# Altium schematic symbol library KipoAlt.SchLib: 644 symbols (part 2 of 4)
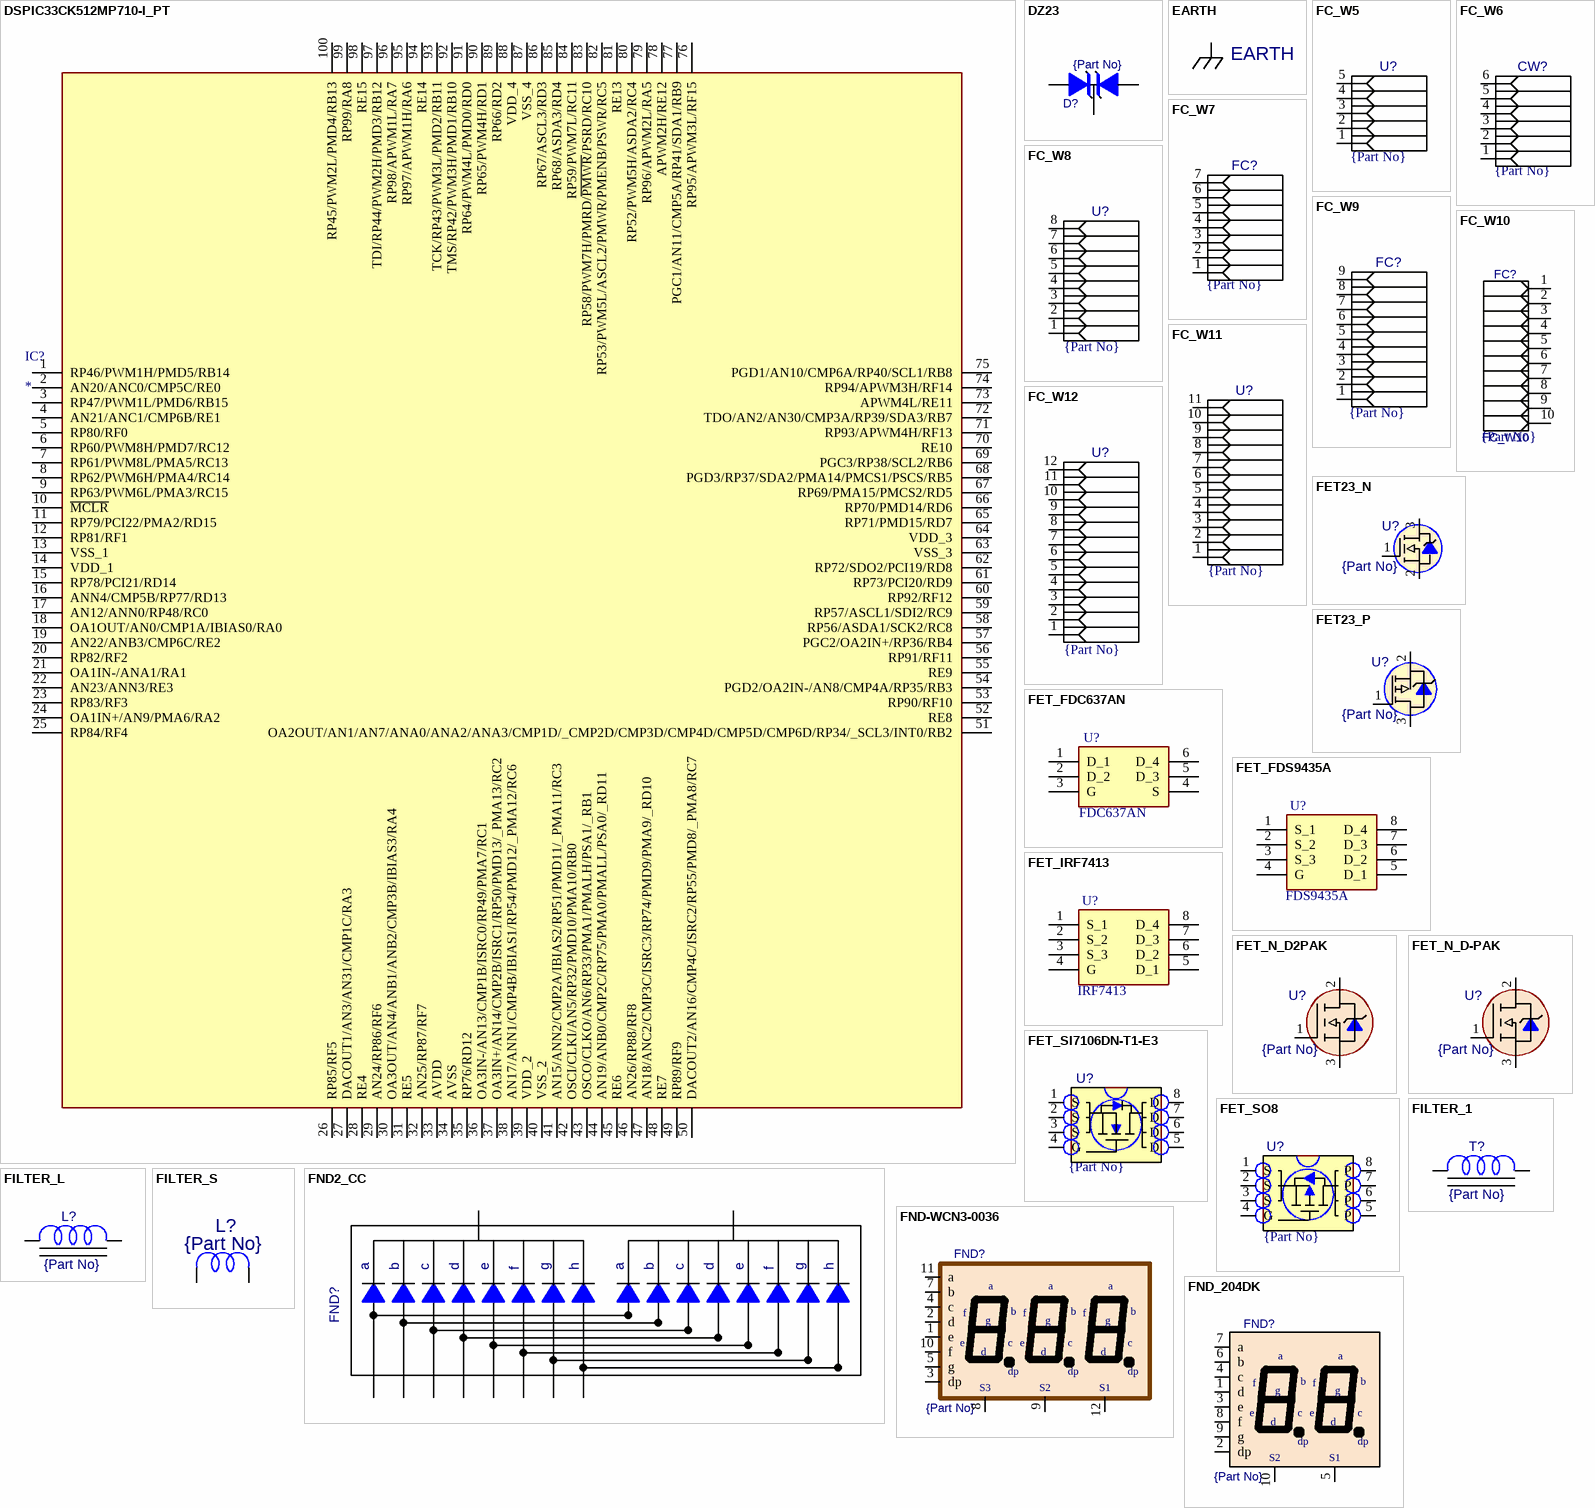
[diagram p19: symbols DSPIC33CK512MP710-I_PT to FND_204DK]

## DSPIC33CK512MP710-I_PT
designator IC?
Integrated Circuit; Manufacturer_Name: Microchip; Manufacturer_Part_Number: DSPIC33CK512MP710-I/PT; Datasheet Link: https://ww1.microchip.com/downloads/aemDocuments/documents/MCU16/ProductDocuments/DataSheets/dsPIC33CK1024MP710-Family-Data-Sheet-DS70005496.pdf; Height: 1.2mm; Mouser Part Number: 579-3CK512MP710-I/PT; Mouser Price/Stock: https://www.mouser.co.uk/ProductDetail/Microchip-Technology/dsPIC33CK512MP710-I-PT?qs=ulEaXIWI0c%2Ftf%2FU6HM7MLg%3D%3D
footprint QFP40P1400X1400X120-100N
pins: 1 RP46/PWM1H/PMD5/RB14, 2 AN20/ANC0/CMP5C/RE0, 3 RP47/PWM1L/PMD6/RB15, 4 AN21/ANC1/CMP6B/RE1, 5 RP80/RF0, 6 RP60/PWM8H/PMD7/RC12, 7 RP61/PWM8L/PMA5/RC13, 8 RP62/PWM6H/PMA4/RC14, 9 RP63/PWM6L/PMA3/RC15, 10 ~{MCLR}, 11 RP79/PCI22/PMA2/RD15, 12 RP81/RF1, 13 VSS_1, 14 VDD_1, 15 RP78/PCI21/RD14, 16 ANN4/CMP5B/RP77/RD13, 17 AN12/ANN0/RP48/RC0, 18 OA1OUT/AN0/CMP1A/IBIAS0/RA0, 19 AN22/ANB3/CMP6C/RE2, 20 RP82/RF2, 21 OA1IN-/ANA1/RA1, 22 AN23/ANN3/RE3, 23 RP83/RF3, 24 OA1IN+/AN9/PMA6/RA2, 25 RP84/RF4, 26 RP85/RF5, 27 DACOUT1/AN3/AN31/CMP1C/RA3, 28 RE4, 29 AN24/RP86/RF6, 30 OA3OUT/AN4/ANB1/ANB2/CMP3B/IBIAS3/RA4, 31 RE5, 32 AN25/RP87/RF7, 33 AVDD, 34 AVSS, 35 RP76/RD12, 36 OA3IN-/AN13/CMP1B/ISRC0/RP49/PMA7/RC1, 37 OA3IN+/AN14/CMP2B/ISRC1/RP50/PMD13/_PMA13/RC2, 38 AN17/ANN1/CMP4B/IBIAS1/RP54/PMD12/_PMA12/RC6, 39 VDD_2, 40 VSS_2, 41 AN15/ANN2/CMP2A/IBIAS2/RP51/PMD11/_PMA11/RC3, 42 OSCI/CLKI/AN5/RP32/PMD10/PMA10/RB0, 43 OSCO/CLKO/AN6/RP33/PMA1/PMALH/PSA1/_RB1, 44 AN19/ANB0/CMP2C/RP75/PMA0/PMALL/PSA0/_RD11, 45 RE6, 46 AN26/RP88/RF8, 47 AN18/ANC2/CMP3C/ISRC3/RP74/PMD9/PMA9/_RD10, 48 RE7, 49 RP89/RF9, 50 DACOUT2/AN16/CMP4C/ISRC2/RP55/PMD8/_PMA8/RC7, 51 OA2OUT/AN1/AN7/ANA0/ANA2/ANA3/CMP1D/_CMP2D/CMP3D/CMP4D/CMP5D/CMP6D/RP34/_SCL3/INT0/RB2, 52 RE8, 53 RP90/RF10, 54 PGD2/OA2IN-/AN8/CMP4A/RP35/RB3, 55 RE9, 56 RP91/RF11, 57 PGC2/OA2IN+/RP36/RB4, 58 RP56/ASDA1/SCK2/RC8, 59 RP57/ASCL1/SDI2/RC9, 60 RP92/RF12, 61 RP73/PCI20/RD9, 62 RP72/SDO2/PCI19/RD8, 63 VSS_3, 64 VDD_3, 65 RP71/PMD15/RD7, 66 RP70/PMD14/RD6, 67 RP69/PMA15/PMCS2/RD5, 68 PGD3/RP37/SDA2/PMA14/PMCS1/PSCS/RB5, 69 PGC3/RP38/SCL2/RB6, 70 RE10, 71 RP93/APWM4H/RF13, 72 TDO/AN2/AN30/CMP3A/RP39/SDA3/RB7, 73 APWM4L/RE11, 74 RP94/APWM3H/RF14, 75 PGD1/AN10/CMP6A/RP40/SCL1/RB8, 76 RP95/APWM3L/RF15, 77 PGC1/AN11/CMP5A/RP41/SDA1/RB9, 78 APWM2H/RE12, 79 RP96/APWM2L/RA5, 80 RP52/PWM5H/ASDA2/RC4, 81 RE13, 82 RP53/PWM5L/ASCL2/PMWR/PMENB/PSWR/RC5, 83 RP58/PWM7H/PMRD/~{PMWR}/PSRD/RC10, 84 RP59/PWM7L/RC11, 85 RP68/ASDA3/RD4, 86 RP67/ASCL3/RD3, 87 VSS_4, 88 VDD_4, 89 RP66/RD2, 90 RP65/PWM4H/RD1, 91 RP64/PWM4L/PMD0/RD0, 92 TMS/RP42/PWM3H/PMD1/RB10, 93 TCK/RP43/PWM3L/PMD2/RB11, 94 RE14, 95 RP97/APWM1H/RA6, 96 RP98/APWM1L/RA7, 97 TDI/RP44/PWM2H/PMD3/RB12, 98 RE15, 99 RP99/RA8, 100 RP45/PWM2L/PMD4/RB13

## DZ23
designator D?  Part No.: {Part No}  (hidden comment: DZ23)
Price: {Price}
footprint SOT-23(GSD)
pins: 1, 2, 3

## EARTH
designator PWR?
Part No.: *
pins: 1 EARTH (power)

## FC_W5
designator U?  Part No.: {Part No}  (hidden comment: FC_W5)
Price: {Price}
footprint FC025_05
pins: 1, 2, 3, 4, 5

## FC_W6
designator CW?  Part No.: {Part No}  (hidden comment: FC_W6)
Price: {Price}
footprint FC025_06
pins: 1, 2, 3, 4, 5, 6

## FC_W7
designator FC?  Part No.: {Part No}  (hidden comment: FC_W7)
Price: {Price}
footprint FC025_7
pins: 1, 2, 3, 4, 5, 6, 7

## FC_W8
designator U?  Part No.: {Part No}  (hidden comment: FC_W8)
Price: {Price}
footprint FC025_8
pins: 1, 2, 3, 4, 5, 6, 7, 8

## FC_W9
designator FC?  Part No.: {Part No}  (hidden comment: FC_W9)
Price: {Price}
footprint FC025_9
pins: 1, 2, 3, 4, 5, 6, 7, 8, 9

## FC_W10
designator FC?  Part No.: {Part No}
Price: {Price}
footprint FC025_10
pins: 1, 2, 3, 4, 5, 6, 7, 8, 9, 10

## FC_W11
designator U?  Part No.: {Part No}  (hidden comment: FC_W11)
Price: {Price}
footprint CW025_11A
pins: 1, 2, 3, 4, 5, 6, 7, 8, 9, 10, 11

## FC_W12
designator U?  Part No.: {Part No}  (hidden comment: FC_W12)
Price: {Price}
footprint FC025_12
pins: 1, 2, 3, 4, 5, 6, 7, 8, 9, 10, 11, 12

## FET23_N
designator U?  Part No.: {Part No}  (hidden comment: FET23_N)
Price: {Price}
footprint SOT-23
pins: 1 G, 2 S, 3 D

## FET23_P
designator U?  Part No.: {Part No}  (hidden comment: FET23_P)
Price: {Price}
footprint SOT-23
pins: 1 G, 2 D, 3 S

## FET_FDC637AN
designator U?  Part No.: FDC637AN  (hidden comment: *)
MOSFET (N-Channel); Manufacturer_Name: onsemi; Datasheet Link: https://www.onsemi.com/pub/Collateral/FDC637AN-D.PDF; Height: 1.1mm; Mouser Part Number: 512-FDC637AN; Mouser Price/Stock: https://www.mouser.co.uk/ProductDetail/ON-Semiconductor-Fairchild/FDC637AN?qs=utFvTgNEmG6iAEUdTAueXw%3D%3D; Arrow Part Number: FDC637AN; Arrow Price/Stock: https://www.arrow.com/en/products/fdc637an/on-semiconductor?region=nac; Price: {Price}
footprint SOT95P275X110-6N
pins: 1 D_1, 2 D_2, 3 G, 4 S, 5 D_3, 6 D_4

## FET_FDS9435A
designator U?  Part No.: FDS9435A  (hidden comment: *)
Integrated Circuit; Manufacturer_Name: onsemi; Datasheet Link: https://www.onsemi.com/pub/Collateral/FDS9435A-D.PDF; Height: 1.75mm; Mouser Part Number: 512-FDS9435A; Mouser Price/Stock: https://www.mouser.co.uk/ProductDetail/onsemi-Fairchild/FDS9435A?qs=HK%252BeIG1iaai5iaQ4P2nZLA%3D%3D; Arrow Part Number: FDS9435A; Arrow Price/Stock: https://www.arrow.com/en/products/fds9435a/on-semiconductor?region=nac; Price: 570
footprint SOIC127P600X175-8N
pins: 1 S_1, 2 S_2, 3 S_3, 4 G, 5 D_1, 6 D_2, 7 D_3, 8 D_4

## FET_IRF7413
designator U?  Part No.: IRF7413  (hidden comment: *)
Integrated Circuit; Manufacturer_Name: onsemi; Datasheet Link: https://www.onsemi.com/pub/Collateral/FDS9435A-D.PDF; Height: 1.75mm; Mouser Part Number: 512-FDS9435A; Mouser Price/Stock: https://www.mouser.co.uk/ProductDetail/onsemi-Fairchild/FDS9435A?qs=HK%252BeIG1iaai5iaQ4P2nZLA%3D%3D; Arrow Part Number: FDS9435A; Arrow Price/Stock: https://www.arrow.com/en/products/fds9435a/on-semiconductor?region=nac; Price: 570
footprint SOIC127P600X175-8N
pins: 1 S_1, 2 S_2, 3 S_3, 4 G, 5 D_1, 6 D_2, 7 D_3, 8 D_4

## FET_N_D2PAK
designator U?, comment Part No.: {Part No}  (hidden comment: FET_N_D-PAK)
Price: {Price}
footprint FET3205S
pins: 1 G, 2 D, 3 S

## FET_N_D-PAK
designator U?  Part No.: {Part No}  (hidden comment: FET_N_D-PAK)
Price: {Price}
footprint D-PAK-252
pins: 1 G, 2 D, 3 S

## FET_SI7106DN-T1-E3
designator U?  Part No.: {Part No}  (hidden comment: FET_SI7106DN-T1-E3)
Price: {Price}
footprint SO8
pins: 1 S, 2 S, 3 S, 4 G, 5 D, 6 D, 7 D, 8 D

## FET_SO8
designator U?  Part No.: {Part No}  (hidden comment: FET_SO8)
Price: {Price}
footprint SO8
pins: 1 S, 2 S, 3 S, 4 G, 5 P, 6 P, 7 P, 8 P

## FILTER_1
designator T?  Part No.: {Part No}  (hidden comment: FILTER_1)
Price: {Price}
footprint NOISE_F1
pins: 1, 2

## FILTER_L
designator L?  Part No.: {Part No}  (hidden comment: FILTER_L)
Price: {Price}
footprint FITER_L
pins: 1, 2

## FILTER_S
designator L?  Part No.: {Part No}  (hidden comment: FILTER_S)
Price: {Price}
footprint FILTER_S
pins: 1, 2

## FND2_CC
designator FND?  (value not drawn)
Part No.: *; Price: {Price}
footprint 7SEG2_K_CM
pins: 1, 2, 3, 4, 5, 6, 7, 8, 9, 10
text: a; b; c; d; e; f; g; h

## FND-WCN3-0036
designator FND?, comment Part No.: {Part No}  (hidden comment: SND-330B)
Price: {Price}
footprint WCN3-0036
pins: 1 e, 2 d, 3 dp, 4 c, 5 g, 6 hidden, 7 b, 8 S3, 9 S2, 10 f, 11 a, 12 S1

## FND_204DK
designator FND?  Part No.: {Part No}  (hidden comment: FND_204DK)
Price: {Price}
footprint 7SEG2_K_CM
pins: 1 d, 2 dp, 3 e, 4 c, 5 S1, 6 b, 7 a, 8 f, 9 g, 10 S2

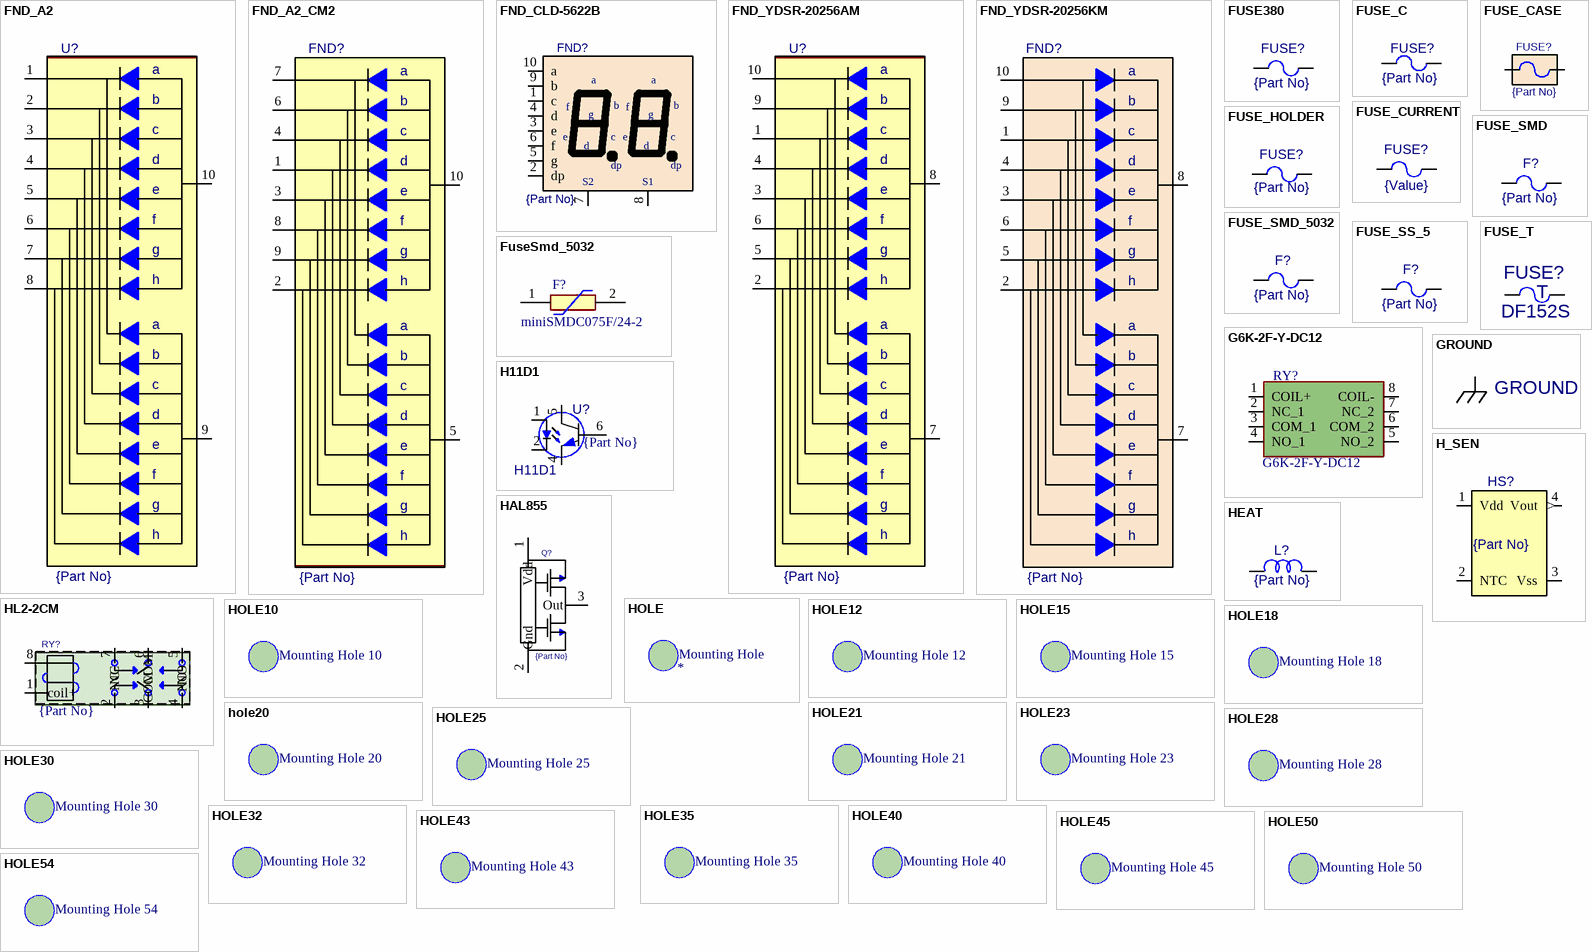
[diagram p7: symbols FND_A2 to HOLE54]

## FND_A2
designator U?  Part No.: {Part No}  (hidden comment: *)
Price: {Price}
pins: 1, 2, 3, 4, 5, 6, 7, 8, 9, 10
text: a; b; c; d; e; f; g; h

## FND_A2_CM2
designator FND?  Part No.: {Part No}  (hidden comment: *)
Price: {Price}
footprint 7SEG2_K_CM_FND_A2_CM2(Primary)
pins: 1, 2, 3, 4, 5, 6, 7, 8, 9, 10
text: a; b; c; d; e; f; g; h

## FND_CLD-5622B
designator FND?  Part No.: {Part No}  (hidden comment: FND_CLD-5622B)
Price: {Price}
footprint FND_CLD-5622
pins: 1 c, 2 dp, 3 e, 4 d, 5 g, 6 f, 7 S2, 8 S1, 9 b, 10 a

## FND_YDSR-20256AM
designator U?  Part No.: {Part No}  (hidden comment: *)
Price: {Price}
footprint FND-25X19X8
pins: 1, 2, 3, 4, 5, 6, 7, 8, 9 B, 10 A
text: a; b; c; d; e; f; g; h

## FND_YDSR-20256KM
designator FND?  Part No.: {Part No}  (hidden comment: *)
Price: {Price}
footprint 7SEG2_K_CM
pins: 1, 2, 3, 4, 5, 6, 7, 8, 9, 10
text: a; b; c; d; e; f; g; h

## FUSE380
designator FUSE?  Part No.: {Part No}  (hidden comment: FUSE380)
Price: {Price}
footprint FUSE380
pins: 1, 2

## FUSE_C
designator FUSE?  Part No.: {Part No}  (hidden comment: FUSE_C)
Price: {Price}
footprint FUSE_C
pins: 1, 2

## FUSE_CASE
designator FUSE?  Part No.: {Part No}  (hidden comment: FUSE_CASE)
Price: {Price}
footprint FUSE_HOLD_S
pins: 1, 2

## FUSE_CURRENT
designator FUSE?  Part No.: {Value}  (hidden comment: FUSE_CURRENT)
Price: {Price}
footprint FUSE_CURRENT
pins: 1, 2

## FUSE_HOLDER
designator FUSE?  Part No.: {Part No}  (hidden comment: FUSE_HOLDER)
Price: {Price}
footprint FUSE_HOLDER
pins: 1, 2

## FUSE_SMD
designator F?  Part No.: {Part No}  (hidden comment: FUSE_SMD)
Price: {Price}
footprint FUSE_SMD
pins: 1, 2

## FUSE_SMD_5032
designator F?  Part No.: {Part No}  (hidden comment: FUSE_SMD_5032)
Price: {Price}
footprint FUSE_SMD_5032
pins: 1, 2

## FUSE_SS_5
designator F?  Part No.: {Part No}  (hidden comment: FUSE_SS_5)
Price: {Price}
footprint FUSE_SS_5
pins: 1, 2

## FUSE_T
designator FUSE?  Part No.: DF152S  (hidden comment: FUSE_T)
Price: 148
footprint T_FUSE
footprint T_FUSE _n
pins: 1, 2
text: T

## FuseSmd_5032
designator F?  Part No.: miniSMDC075F/24-2  (hidden comment: *)
Resettable Fuse; Manufacturer_Name: LITTELFUSE; Part Number: miniSMDC075F/24; Datasheet Link: https://componentsearchengine.com/Datasheets/2/MINISMDC050F-2.pdf; Mouser Price/Stock: https://www.mouser.co.uk/ProductDetail/Littelfuse/MINISMDC075F-24-2?qs=F6FIpiMdEVbDbC%2FX4s7sIg%3D%3D; Arrow Part Number: MINISMDC075F/24-2; Arrow Price/Stock: https://www.arrow.com/en/products/minismdc075f24-2/littelfuse?region=nac; Price: {Price}
footprint MINISMDC050F2
pins: 1, 2

## G6K-2F-Y-DC12
designator RY?
Relay or Contactor; Manufacturer_Name: OMRON Electronics; Datasheet Link: https://datasheet.lcsc.com/szlcsc/1906271837_Omron-Electronics-G6K-2F-Y-DC12_C397194.pdf; Height: 5.4mm; Mouser Part Number: 653-G6K-2F-Y-DC12; Mouser Price/Stock: https://www.mouser.co.uk/ProductDetail/Omron-Electronics/G6K-2F-Y-DC12?qs=lK7M36XCk6Jyttpb23V04g%3D%3D; Manufacturer_Part_Number: G6K-2F-Y-DC12
footprint G6K2FYDC12
pins: 1 COIL+, 2 NC_1, 3 COM_1, 4 NO_1, 5 NO_2, 6 COM_2, 7 NC_2, 8 COIL-

## GROUND
designator PWR?
Part No.: *
pins: 1 GROUND (power)

## H11D1
designator U?  Part No.: {Part No}
Price: {Price}
footprint DIP6
pins: 1, 2, 3 hidden, 4, 5, 6

## H_SEN
designator HS?  Part No.: {Part No}  (hidden comment: H_SEN)
Humidity Sensor; OriginalName: PIC16C54-10/SO; ComponentField7: Published 17-Feb-2005; ComponentField6: *; Price: {Price}
footprint H_SEN
pins: 1 Vdd (power), 2 NTC, 3 Vss (power), 4 Vout (out)

## HAL855
designator Q?  Part No.: {Part No}  (hidden comment: HAL855)
Price: {Price}
footprint TO92_UT
pins: 1 Vdd (power), 2 Gnd (power), 3 Out

## HEAT
designator L?  Part No.: {Part No}  (hidden comment: HEAT)
Price: {Price}
pins: 1, 2

## HL2-2CM
designator RY?  Part No.: {Part No}  (hidden comment: HL2-2CM)
Price: {Price}
footprint HL2-2CM
pins: 1 coil+, 2 NC, 3 COM, 4 NO, 5 NO, 6 COM, 7 NC, 8 coil-

## HOLE
designator Hole?, comment Mounting Hole
Part No.: *; Value: *
footprint HOLE10 (Footprint not found)
footprint HOLE12
footprint HOLE15
footprint HOLE18
footprint HOLE20
footprint HOLE21
footprint HOLE23
footprint HOLE25
footprint HOLE28
footprint HOLE30
footprint HOLE32
footprint HOLE35
footprint HOLE40
footprint HOLE43
footprint HOLE50
footprint HOLE50
footprint HOLE54
footprint HOLE73
pins: 1 hidden

## HOLE10
designator Hole?, comment Mounting Hole 10
Part No.: *
footprint HOLE10 (Footprint not found)
pins: 1 hidden

## HOLE12
designator Hole?, comment Mounting Hole 12
Part No.: *
footprint HOLE12 (Footprint not found)
pins: 1 hidden

## HOLE15
designator Hole?, comment Mounting Hole 15
Part No.: *
footprint HOLE15 (Footprint not found)
pins: 1 hidden

## HOLE18
designator Hole?, comment Mounting Hole 18
Part No.: *
footprint HOLE18 (Footprint not found)
pins: 1 hidden

## hole20
designator Hole?, comment Mounting Hole 20
Part No.: *
footprint HOLE20 (Footprint not found)
pins: 1 hidden

## HOLE21
designator Hole?, comment Mounting Hole 21
Part No.: *
footprint HOLE21
pins: 1 hidden

## HOLE23
designator Hole?, comment Mounting Hole 23
Part No.: *
footprint HOLE23
pins: 1 hidden

## HOLE25
designator Hole?, comment Mounting Hole 25
Part No.: *
footprint HOLE25
pins: 1 hidden

## HOLE28
designator Hole?, comment Mounting Hole 28
Part No.: *
footprint HOLE28
pins: 1 hidden

## HOLE30
designator Hole?, comment Mounting Hole 30
Part No.: *
footprint HOLE30
pins: 1 hidden

## HOLE32
designator Hole?, comment Mounting Hole 32
Part No.: *
footprint HOLE32
pins: 1 hidden

## HOLE35
designator Hole?, comment Mounting Hole 35
Part No.: *
footprint HOLE35
pins: 1 hidden

## HOLE40
designator Hole?, comment Mounting Hole 40
Part No.: *
footprint HOLE40
pins: 1 hidden

## HOLE43
designator Hole?, comment Mounting Hole 43
Part No.: *
footprint HOLE43
pins: 1 hidden

## HOLE45
designator hole?, comment Mounting Hole 45
Part No.: *
footprint HOLE45C70

## HOLE50
designator hole?, comment Mounting Hole 50
Part No.: *
footprint HOLE50
pins: 1 hidden

## HOLE54
designator hole?, comment Mounting Hole 54
Part No.: *
footprint HOLE54
pins: 1 hidden

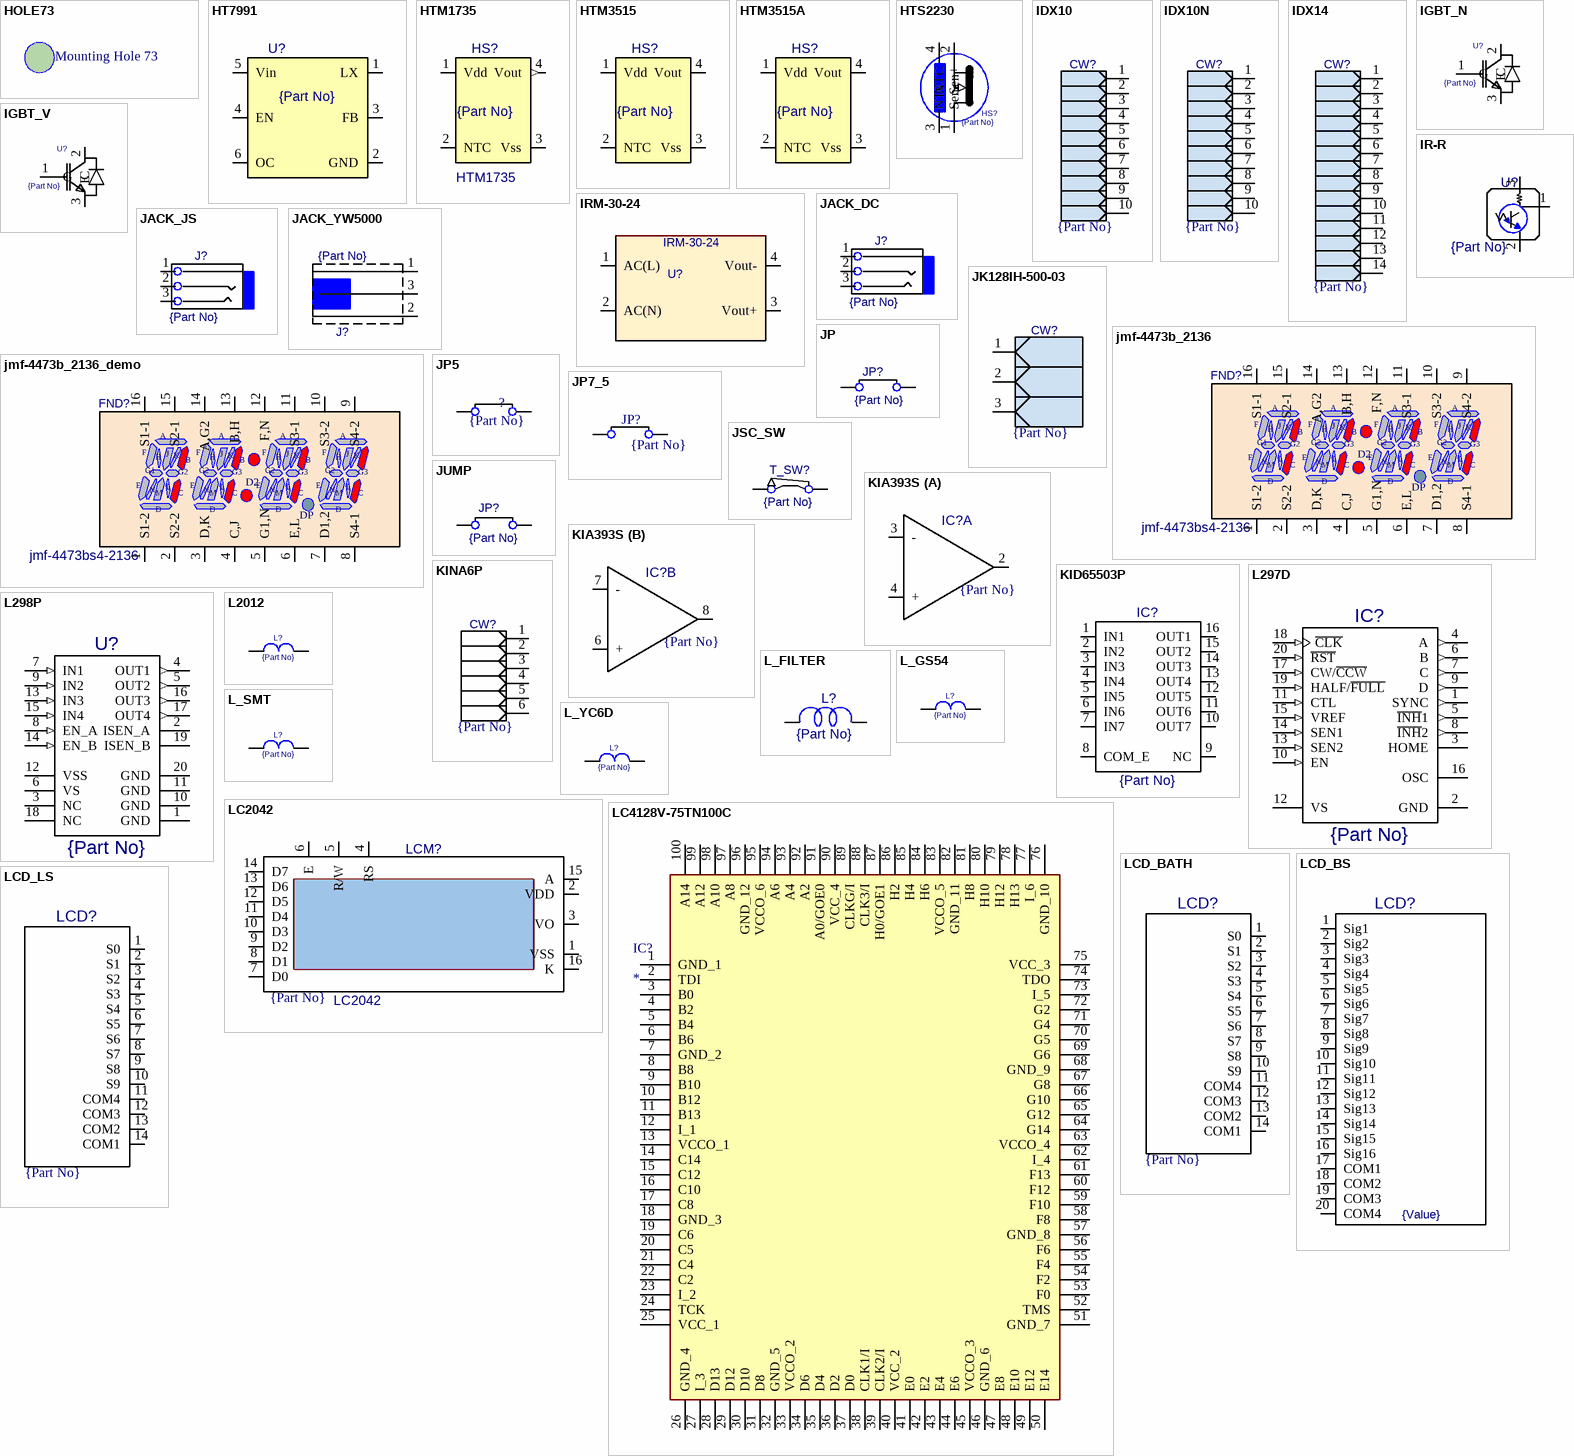
[diagram p8: symbols HOLE73 to LCD_LS]

## HOLE73
designator hole?, comment Mounting Hole 73
Part No.: *
footprint HOLE73
pins: 1 hidden

## HT7991
designator U?  Part No.: {Part No}  (hidden comment: HT7991)
Price: {Price}
footprint TSOT-23-6
pins: 1 LX, 2 GND, 3 FB, 4 EN, 5 Vin, 6 OC

## HTM1735
designator HS?  Part No.: {Part No}
Humidity Sensor; OriginalName: PIC16C54-10/SO; ComponentField7: Published 17-Feb-2005; ComponentField6: *; Price: {Price}
footprint HTM1735
pins: 1 Vdd (power), 2 NTC, 3 Vss (power), 4 Vout (out)

## HTM3515
designator HS?  Part No.: {Part No}  (hidden comment: HTM3515)
Humidity Sensor; OriginalName: PIC16C54-10/SO; ComponentField7: Published 17-Feb-2005; ComponentField6: *; Price: {Price}
footprint HTM3515
pins: 1 Vdd, 2 NTC, 3 Vss, 4 Vout

## HTM3515A
designator HS?  Part No.: {Part No}  (hidden comment: HTM3515A)
Humidity Sensor; OriginalName: PIC16C54-10/SO; ComponentField7: Published 17-Feb-2005; ComponentField6: *; Price: {Price}
footprint HTM3515A
pins: 1 Vdd, 2 NTC, 3 Vss, 4 Vout

## HTS2230
designator HS?  Part No.: {Part No}  (hidden comment: HTS2230)
Price: {Price}
footprint HTS2230
pins: 1 Sen-, 2 Sen+, 3 NTC, 4 NTC

## IDX10
designator CW?  Part No.: {Part No}  (hidden comment: IDX10)
Price: {Price}
footprint IDX10
pins: 1, 2, 3, 4, 5, 6, 7, 8, 9, 10

## IDX10N
designator CW?  Part No.: {Part No}  (hidden comment: IDX10N)
Price: {Price}
footprint IDX10N
pins: 1, 2, 3, 4, 5, 6, 7, 8, 9, 10

## IDX14
designator CW?  Part No.: {Part No}  (hidden comment: IDX14)
Price: {Price}
footprint IDX14
pins: 1, 2, 3, 4, 5, 6, 7, 8, 9, 10, 11, 12, 13, 14

## IGBT_N
designator U?  Part No.: {Part No}  (hidden comment: IGBT_N)
Price: {Price}
pins: 1 G, 2 C, 3 E

## IGBT_V
designator U?  Part No.: {Part No}  (hidden comment: IGBT_V)
Price: {Price}
footprint IGBT_V
pins: 1 G, 2 C, 3 E

## IR-R
designator U?  Part No.: {Part No}  (hidden comment: IR-R)
Price: {Price}
footprint IR-R
pins: 1 Vout, 2 Gnd, 3 Vcc

## IRM-30-24
designator U?, comment Part No.: IRM-30-24  (hidden comment: AC2DC 24V_1200mA)
{Price}: Price
footprint IRM-30
pins: 1 AC(L), 2 AC(N), 3 Vout+, 4 Vout-

## JACK_DC
designator J?  Part No.: {Part No}  (hidden comment: JACK_DC)
Price: {Price}
footprint DC_JACK
pins: 1, 2, 3

## JACK_JS
designator J?  Part No.: {Part No}  (hidden comment: JACK_JS)
Price: {Price}
footprint JACK_JS
pins: 1, 2, 3

## JACK_YW5000
designator J?  Part No.: {Part No}  (hidden comment: JACK_YW5000)
Price: {Price}
footprint J_YW5000
pins: 1, 2, 3

## JK128IH-500-03
designator CW?  Part No.: {Part No}  (hidden comment: JK128IH-500-03)
Price: {Price}
footprint JK128IH-500-03
pins: 1, 2, 3

## jmf-4473b_2136
designator FND?, comment Part No.: jmf-4473bs4-2136  (hidden comment: WDUR-4043A)
Price: 700
footprint JMF-4473B_2136 -demo
pins: 1 S1-2, 2 S2-2, 3 D,K, 4 C,J, 5 G1,N, 6 E,L, 7 D1,2, 8 S4-1, 9 S4-2, 10 S3-2, 11 S3-1, 12 F,N, 13 B,H, 14 A,G2, 15 S2-1, 16 S1-1
text: A; F; J; H; K; B; G1; G2; G3; D2; E; N; L; M; C; D; DP

## jmf-4473b_2136_demo
designator FND?, comment Part No.: jmf-4473bs4-2136  (hidden comment: WDUR-4043A)
Price: 700
footprint JMF-4473B_2136 -demo
pins: 1 S1-2, 2 S2-2, 3 D,K, 4 C,J, 5 G1,N, 6 E,L, 7 D1,2, 8 S4-1, 9 S4-2, 10 S3-2, 11 S3-1, 12 F,N, 13 B,H, 14 A,G2, 15 S2-1, 16 S1-1
text: A; F; J; H; K; B; G1; G2; G3; D2; E; N; L; M; C; D; DP

## JP
designator JP?  Part No.: {Part No}  (hidden comment: JP)
Price: {Price}
footprint JP400
pins: 1, 2

## JP5
designator ?  Part No.: {Part No}  (hidden comment: *)
Price: {Price}
footprint JP5
pins: 1 hidden, 1, 2 hidden, 2

## JP7_5
designator JP?  Part No.: {Part No}  (hidden comment: *)
Price: {Price}
footprint JP7_5
pins: 1 hidden, 1, 2 hidden, 2

## JSC_SW
designator T_SW?  Part No.: {Part No}  (hidden comment: JSC_SW)
Price: {Price}
pins: 1, 2

## JUMP
designator JP?  Part No.: {Part No}  (hidden comment: JUMP)
Price: {Price}
footprint JP400
pins: 1, 2

## KIA393S
designator IC?  Part No.: {Part No}  (hidden comment: KIA393S)
Price: {Price}
footprint SIP9
pins on every part: 1 Vdd (power) hidden, 5 GND (power) hidden, 9 Vdd (power) hidden
part A pins: 2, 3 -, 4 +
part B pins: 6 +, 7 -, 8

## KID65503P
designator IC?  Part No.: {Part No}  (hidden comment: KID65503P)
Seven Darlington Array; OriginalName: ULN2003D; ComponentField7: Published 8-Jun-2000.; Price: {Price}
footprint DIP16
pins: 1 IN1, 2 IN2, 3 IN3, 4 IN4, 5 IN5, 6 IN6, 7 IN7, 8 COM_E, 9 NC, 10 OUT7, 11 OUT6, 12 OUT5, 13 OUT4, 14 OUT3, 15 OUT2, 16 OUT1

## KINA6P
designator CW?  Part No.: {Part No}  (hidden comment: KINA6P)
Price: {Price}
footprint KINA6PIN
pins: 1, 2, 3, 4, 5, 6

## L297D
designator IC?  Part No.: {Part No}  (hidden comment: L297D)
Stepper Motor Controller; ComponentField7: Published 8-Jun-2000.; OriginalName: L297D; Price: {Price}
footprint SO-G20
pins: 1 SYNC (out), 2 GND (power), 3 HOME (oe), 4 A (out), 5 ~{INH}1 (out), 6 B (out), 7 C (out), 8 ~{INH}2 (out), 9 D (out), 10 EN (in), 11 CTL (in), 12 VS (power), 13 SEN2 (in), 14 SEN1 (in), 15 VREF (in), 16 OSC, 17 CW/~{CCW} (in), 18 ~{CLK} (in), 19 HALF/~{FULL} (in), 20 ~{RST} (in)

## L298P
designator U?  Part No.: {Part No}  (hidden comment: L298P)
Dual Full Bridge Driver; ComponentField7: Published 8-Jun-2000.; OriginalName: L298P; Price: {Price}
footprint SO-G20/Y2
pins: 1 GND (power), 2 ISEN_A, 3 NC, 4 OUT1 (out), 5 OUT2 (out), 6 VS (power), 7 IN1 (in), 8 EN_A (in), 9 IN2 (in), 10 GND (power), 11 GND (power), 12 VSS (power), 13 IN3 (in), 14 EN_B (in), 15 IN4 (in), 16 OUT3 (out), 17 OUT4 (out), 18 NC, 19 ISEN_B, 20 GND (power)

## L2012
designator L?  Part No.: {Part No}  (hidden comment: L2012)
Price: {Price}
footprint CC2012
pins: 1, 2

## L_FILTER
designator L?  Part No.: {Part No}  (hidden comment: L_FILTER)
Price: {Price}
footprint COIL1508
pins: 1, 2

## L_GS54
designator L?  Part No.: {Part No}  (hidden comment: L_GS54)
Price: {Price}
footprint L_GS54
pins: 1, 2

## L_SMT
designator L?  Part No.: {Part No}  (hidden comment: L_SMT)
Price: {Price}
footprint CC1608N
footprint CC2012N
footprint CC3216
pins: 1, 2

## L_YC6D
designator L?  Part No.: {Part No}  (hidden comment: L_YC6D)
Price: {Price}
footprint YC6D38T
pins: 1, 2

## LC2042
designator LCM?  Part No.: {Part No}
Price: {Price}
footprint LC2042
pins: 1 VSS, 2 VDD, 3 VO, 4 RS, 5 R/W, 6 E, 7 D0, 8 D1, 9 D2, 10 D3, 11 D4, 12 D5, 13 D6, 14 D7, 15 A, 16 K

## LC4128V-75TN100C
designator IC?
Integrated Circuit; Manufacturer_Name: Lattice Semiconductor; Manufacturer_Part_Number: LC4128V-75TN100C; Datasheet Link: http://www.latticesemi.com/~/media/LatticeSemi/Documents/Solutions/Packaging%20Solutions/ispMACH4000VBCZ%20Family%20Data%20Sheet1020.pdf; Height: 1.6mm; Mouser Part Number: 842-4128V75TN100C; Mouser Price/Stock: https://www.mouser.co.uk/ProductDetail/Lattice/LC4128V-75TN100C?qs=FrD3sb5SkcZtrDAgHc2o7w%3D%3D; Arrow Part Number: LC4128V-75TN100C; Arrow Price/Stock: https://www.arrow.com/en/products/lc4128v-75tn100c/lattice-semiconductor?utm_currency=USD&region=europe
footprint QFP50P1600X1600X160-100N
pins: 1 GND_1, 2 TDI, 3 B0, 4 B2, 5 B4, 6 B6, 7 GND_2, 8 B8, 9 B10, 10 B12, 11 B13, 12 I_1, 13 VCCO_1, 14 C14, 15 C12, 16 C10, 17 C8, 18 GND_3, 19 C6, 20 C5, 21 C4, 22 C2, 23 I_2, 24 TCK, 25 VCC_1, 26 GND_4, 27 I_3, 28 D13, 29 D12, 30 D10, 31 D8, 32 GND_5, 33 VCCO_2, 34 D6, 35 D4, 36 D2, 37 D0, 38 CLK1/I, 39 CLK2/I, 40 VCC_2, 41 E0, 42 E2, 43 E4, 44 E6, 45 VCCO_3, 46 GND_6, 47 E8, 48 E10, 49 E12, 50 E14, 51 GND_7, 52 TMS, 53 F0, 54 F2, 55 F4, 56 F6, 57 GND_8, 58 F8, 59 F10, 60 F12, 61 F13, 62 I_4, 63 VCCO_4, 64 G14, 65 G12, 66 G10, 67 G8, 68 GND_9, 69 G6, 70 G5, 71 G4, 72 G2, 73 I_5, 74 TDO, 75 VCC_3, 76 GND_10, 77 I_6, 78 H13, 79 H12, 80 H10, 81 H8, 82 GND_11, 83 VCCO_5, 84 H6, 85 H4, 86 H2, 87 H0/GOE1, 88 CLK3/I, 89 CLKG/I, 90 VCC_4, 91 A0/GOE0, 92 A2, 93 A4, 94 A6, 95 VCCO_6, 96 GND_12, 97 A8, 98 A10, 99 A12, 100 A14

## LCD_BATH
designator LCD?  Part No.: {Part No}  (hidden comment: LCD_BATH)
Price: {Price}
footprint LCD_WD
pins: 1 S0, 2 S1, 3 S2, 4 S3, 5 S4, 6 S5, 7 S6, 8 S7, 9 S8, 10 S9, 11 COM4, 12 COM3, 13 COM2, 14 COM1

## LCD_BS
designator LCD?  Part No.: {Value}  (hidden comment: LCD_BS)
Price: {Price}
footprint LCD_BS
pins: 1 Sig1, 2 Sig2, 3 Sig3, 4 Sig4, 5 Sig5, 6 Sig6, 7 Sig7, 8 Sig8, 9 Sig9, 10 Sig10, 11 Sig11, 12 Sig12, 13 Sig13, 14 Sig14, 15 Sig15, 16 Sig16, 17 COM1, 18 COM2, 19 COM3, 20 COM4

## LCD_LS
designator LCD?  Part No.: {Part No}  (hidden comment: LCD_LS)
Price: {Price}
footprint LCD_LS
pins: 1 S0, 2 S1, 3 S2, 4 S3, 5 S4, 6 S5, 7 S6, 8 S7, 9 S8, 10 S9, 11 COM4, 12 COM3, 13 COM2, 14 COM1

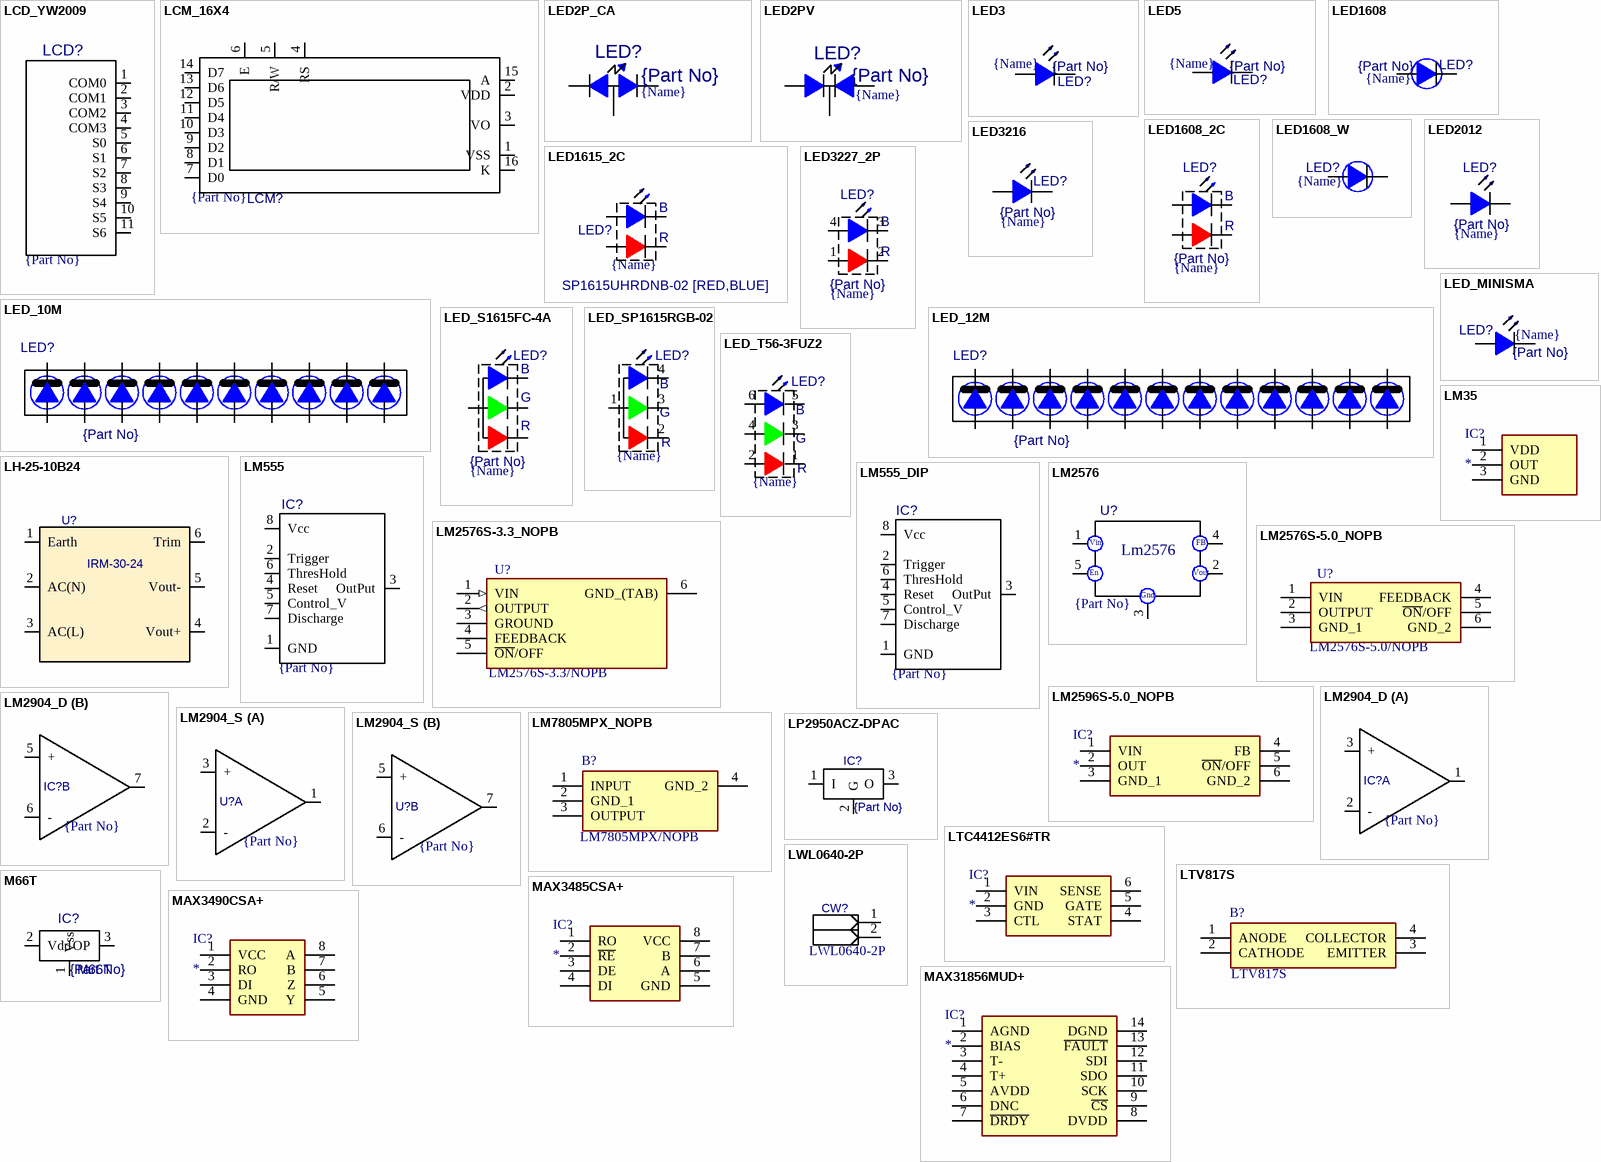
[diagram p9: symbols LCD_YW2009 to MAX31856MUD+]

## LCD_YW2009
designator LCD?  Part No.: {Part No}  (hidden comment: LCD_YW2009)
Price: {Price}
footprint LCD_YW2009
pins: 1 COM0, 2 COM1, 3 COM2, 4 COM3, 5 S0, 6 S1, 7 S2, 8 S3, 9 S4, 10 S5, 11 S6, 12 hidden, 13 hidden

## LCM_16X4
designator LCM?  Part No.: {Part No}  (hidden comment: LCM_16X4)
Price: {Price}
footprint SC1604A
pins: 1 VSS, 2 VDD, 3 VO, 4 RS, 5 R/W, 6 E, 7 D0, 8 D1, 9 D2, 10 D3, 11 D4, 12 D5, 13 D6, 14 D7, 15 A, 16 K

## LED2P_CA
designator LED?  Name: {Name}  Part No.: {Part No}  (hidden comment: LED2P_CA)
Price: {Price}
footprint LED_2P_CA
pins: 1, 2, 3

## LED2PV
designator LED?  Name: {Name}  Part No.: {Part No}  (hidden comment: LED2PV)
Price: {Price}
footprint LED_2PV
pins: 1, 2, 3

## LED3
designator LED?  Name: {Name}  Part No.: {Part No}  (hidden comment: LED3)
Price: {Price}
footprint LED3
pins: 1, 2

## LED5
designator LED?  Name: {Name}  Part No.: {Part No}  (hidden comment: LED5)
Price: {Price}
footprint LED5
footprint LED5 - s2x5
pins: 1, 2

## LED1608
designator LED?  Name: {Name}  Part No.: {Part No}  (hidden comment: LED1608)
Price: {Price}
footprint LED1608
pins: 1, 2

## LED1608_2C
designator LED?, comment Name: {Name}  Part No.: {Part No}  (hidden comment: LED_1608_2C)
Price: {Price}
footprint LED_SP0605G-2C
pins: 1, 2, 3, 4
text: B; R

## LED1608_W
designator LED?, comment Name: {Name}  (hidden comment: LED1608)
Part No.: BIT1608DBW-10K-02(White); Price: 18
footprint LED1608
pins: 1, 2

## LED1615_2C
designator LED?, comment Part No.: SP1615UHRDNB-02 [RED,BLUE]  Name: {Name}  (hidden comment: LED_1615_2C)
Price: 62
footprint LED_1615
pins: 1, 2, 3, 4
text: B; R

## LED2012
designator LED?  Name: {Name}  Part No.: {Part No}  (hidden comment: LED2012)
Price: {Price}
footprint LED2012
pins: 1, 2

## LED3216
designator LED?, comment Part No.: {Part No}  (hidden comment: LED_3216)
Price: {Price}; {Name}: {Name}
footprint LED3216
pins: 1, 2

## LED3227_2P
designator LED?, comment Name: {Name}  Part No.: {Part No}  (hidden comment: LED_3227_2P)
Price: {Price}
footprint LED_SP155
pins: 1, 2, 3, 4
text: B; R

## LED_10M
designator LED?  Part No.: {Part No}  (hidden comment: LED_10M)
Price: {Price}
footprint LED_M_10
pins: 1, 2, 3, 4, 5, 6, 7, 8, 9, 10, 11, 12, 13, 14, 15, 16, 17, 18, 19, 20

## LED_12M
designator LED?  Part No.: {Part No}  (hidden comment: LED_12M)
Price: {Price}
footprint LED_M_12
pins: 1, 2, 3, 4, 5, 6, 7, 8, 9, 10, 11, 12, 13, 14, 15, 16, 17, 18, 19, 20, 21, 22, 23, 24

## LED_MINISMA
designator LED?  Name: {Name}  Part No.: {Part No}  (hidden comment: LED_MINISMA)
Price: {Price}
footprint LED2012
pins: 1, 2

## LED_S1615FC-4A
designator LED?  Name: {Name}  Part No.: {Part No}  (hidden comment: LED_S1615FC-4A)
Price: {Price}
footprint LED_S1615FC-4A
pins: 1, 2, 3, 4
text: B; G; R

## LED_SP1615RGB-02
designator LED?  Name: {Name}  (hidden comment: LED_SP1615RGB-02)
Part No.: CL-SP1615RGB-02 [RED,GREEN,BLUE]; Price: 75
footprint LED_1615_RGBC-YG
footprint LED_S1615-CL_LITE
pins: 1, 2, 3, 4
text: B; G; R

## LED_T56-3FUZ2
designator LED?, comment Name: {Name}  (hidden comment: LED_SP1615RGB-02)
Part No.: CL-SP1615RGB-02 [RED,GREEN,BLUE]; Price: 75
footprint LED_T56-3FUZ2
pins: 1, 2, 3, 4, 5, 6
text: B; G; R

## LH-25-10B24
designator U?, comment Part No.: IRM-30-24  (hidden comment: AC2DC 24V_1200mA)
{Price}: Price
footprint LH25-10b24
pins: 1 Earth, 2 AC(N), 3 AC(L), 4 Vout+, 5 Vout-, 6 Trim

## LM35
designator IC?
Integrated Circuit; Manufacturer_Name: Analog Devices; Manufacturer_Part_Number: DS18B20+; Datasheet Link: https://ms.componentsearchengine.com/Datasheets/2/DS18B20+.pdf; Height: 4.95mm; Mouser Part Number: 700-DS18B20+; Mouser Price/Stock: https://www.mouser.co.uk/ProductDetail/Analog-Devices-Maxim-Integrated/DS18B20%2b?qs=7H2Jq%252ByxpJKegCKabDbglA%3D%3D; Arrow Part Number: DS18B20+; Arrow Price/Stock: https://www.arrow.com/en/products/ds18b20/analog-devices.html?utm_currency=USD&region=nac
footprint TO92
pins: 1 VDD, 2 OUT, 3 GND

## LM555
designator IC?  Part No.: {Part No}  (hidden comment: LM555)
Price: {Price}
footprint SO8
pins: 1 GND, 2 Trigger, 3 OutPut, 4 Reset, 5 Control_V, 6 ThresHold, 7 Discharge, 8 Vcc

## LM555_DIP
designator IC?  Part No.: {Part No}  (hidden comment: LM555_DIP)
Parameter 2: *; Price: {Price}
footprint DIP8
pins: 1 GND, 2 Trigger, 3 OutPut, 4 Reset, 5 Control_V, 6 ThresHold, 7 Discharge, 8 Vcc

## LM2576
designator U?  Part No.: {Part No}  (hidden comment: LM2576)
Price: {Price}
footprint TO-263
pins: 1 VIN, 2 VOUT, 3 GND, 4 FB, 5 ~{ENABLE}, 6 hidden
text: Vin; Lm2576; En; Vout; Gnd

## LM2576S-3.3_NOPB
designator U?  Part No.: LM2576S-3.3/NOPB  (hidden comment: *)
Integrated Circuit; Manufacturer_Name: Texas Instruments; Datasheet Link: http://www.ti.com/lit/ds/symlink/lm2576.pdf; Height: 4.65mm; Mouser Price/Stock: https://www.mouser.co.uk/ProductDetail/Texas-Instruments/LM2576S-3.3-NOPB?qs=X1J7HmVL2ZHgUfnXFulfHg%3D%3D; Arrow Part Number: LM2576S-3.3/NOPB; Arrow Price/Stock: https://www.arrow.com/en/products/lm2576s-3.3nopb/texas-instruments?region=nac; Price: 485
footprint KTT0005B
pins: 1 VIN (in), 2 OUTPUT (out), 3 GROUND, 4 FEEDBACK, 5 ~{ON}/OFF, 6 GND_(TAB) (power)

## LM2576S-5.0_NOPB
designator U?  Part No.: LM2576S-5.0/NOPB  (hidden comment: *)
Integrated Circuit; Manufacturer_Name: Texas Instruments; Datasheet Link: http://www.ti.com/lit/ds/symlink/lm2576.pdf?HQS=TI-null-null-mousermode-df-pf-null-wwe&ts=1591174520046; Arrow Part Number: LM2576S-5.0/NOPB; Arrow Price/Stock: https://www.arrow.com/en/products/lm2576s-5.0nopb/texas-instruments?region=nac; Price: 485
footprint KTT0005B
pins: 1 VIN, 2 OUTPUT, 3 GND_1, 4 FEEDBACK, 5 ~{ON}/OFF, 6 GND_2

## LM2596S-5.0_NOPB
designator IC?
Integrated Circuit; Manufacturer_Name: Texas Instruments; Manufacturer_Part_Number: LM2596S-5.0/NOPB; Datasheet Link: https://www.ti.com/lit/gpn/LM2596; Mouser Part Number: 926-LM2596S-5.0/NOPB; Mouser Price/Stock: https://www.mouser.co.uk/ProductDetail/Texas-Instruments/LM2596S-5.0-NOPB?qs=X1J7HmVL2ZHVjCOmW%252BYINA%3D%3D; Arrow Part Number: LM2596S-5.0/NOPB; Arrow Price/Stock: https://www.arrow.com/en/products/lm2596s-5-0nopb_9/texas-instruments.html?utm_currency=USD&region=nac
footprint KTT0005B
pins: 1 VIN, 2 OUT, 3 GND_1, 4 FB, 5 ~{ON}/OFF, 6 GND_2

## LM2904_D
designator IC?  Part No.: {Part No}  (hidden comment: LM2904_D)
Price: {Price}
footprint DIP8
pins on every part: 4 Gnd (power) hidden, 8 Vdd (power) hidden
part A pins: 1, 2 -, 3 +
part B pins: 5 +, 6 -, 7

## LM2904_S
designator U?  Part No.: {Part No}  (hidden comment: LM2904_S)
Price: {Price}
footprint SO8
footprint SOIC127P600X175-8N
pins on every part: 4 Gnd (power) hidden, 8 Vdd (power) hidden
part A pins: 1, 2 -, 3 +
part B pins: 5 +, 6 -, 7

## LM7805MPX_NOPB
designator B?  Part No.: LM7805MPX/NOPB  (hidden comment: LM7805MPX_NOPB)
Linear Voltage Regulators 1.5-A, Wide VIN Fixed Voltage Regulators 4-SOT-223 0 to 0; Manufacturer_Name: Texas Instruments; Geometry.Height: 1.8mm; Mouser Part Number: 595-LM7805MPX/NOPB; Mouser Price/Stock: https://www.mouser.co.uk/ProductDetail/Texas-Instruments/LM7805MPX-NOPB?qs=gO6GG99qvRCSwIVAoVKHPw%3D%3D; Arrow Part Number: LM7805MPX/NOPB; Arrow Price/Stock: https://www.arrow.com/en/products/lm7805mpxnopb/texas-instruments?region=nac; Datasheet Link: https://www.arrow.com/en/products/lm7805mpxnopb/texas-instruments; Price: {Price}
footprint SOT230P700X180-4N
pins: 1 INPUT, 2 GND_1, 3 OUTPUT, 4 GND_2

## LP2950ACZ-DPAC
designator IC?  Part No.: {Part No}  (hidden comment: LP2950ACZ-DPAC)
Price: {Price}
footprint DPAC-369
pins: 1 I, 2 G, 3 O

## LTC4412ES6#TR
designator IC?
Integrated Circuit; Manufacturer_Name: Analog Devices; Manufacturer_Part_Number: LTC4412ES6#TR; Datasheet Link: https://eu.mouser.com/datasheet/2/609/4412fb-1268394.pdf; Height: 1mm; Mouser Part Number: 584-LTC4412ES6#TR; Mouser Price/Stock: https://www.mouser.com/Search/Refine.aspx?Keyword=584-LTC4412ES6%23TR
footprint SOT95P280X100-6N
pins: 1 VIN, 2 GND, 3 CTL, 4 STAT, 5 GATE, 6 SENSE

## LTV817S
designator B?
1 CHANNEL TRANSISTOR OUTPUT Photocoupler; Manufacturer_Name: Lite-On; Geometry.Height: 4.6mm; Manufacturer_Part_Number: LTV817S; Mouser Part Number: *; Mouser Price/Stock: *; Arrow Part Number: LTV817S; Arrow Price/Stock: https://www.arrow.com/en/products/ltv-817s/lite-on-technology; Datasheet Link: https://www.arrow.com/en/products/ltv-817s/lite-on-technology
footprint SOP254P1016X460-4N
pins: 1 ANODE, 2 CATHODE, 3 EMITTER, 4 COLLECTOR

## LWL0640-2P
designator CW?
Price: 12; Part No.: LWL0640-2P
footprint LWL0640-2P
pins: 1, 2

## M66T
designator IC?  Part No.: {Part No}
Price: {Price}
footprint TO92
pins: 1 Vss, 2 Vdd, 3 OP

## MAX3485CSA+
designator IC?
Integrated Circuit; Manufacturer_Name: Analog Devices; Manufacturer_Part_Number: MAX3485CSA+; Datasheet Link: http://datasheets.maximintegrated.com/en/ds/MAX3483-MAX3491.pdf; Height: 1.75mm; Mouser Part Number: 700-MAX3485CSA; Mouser Price/Stock: https://www.mouser.co.uk/ProductDetail/Analog-Devices-Maxim-Integrated/MAX3485CSA%2b?qs=1THa7WoU59EwF6JizZr35Q%3D%3D; Arrow Part Number: MAX3485CSA+; Arrow Price/Stock: https://www.arrow.com/en/products/max3485csa/analog-devices?utm_currency=USD&region=nac
footprint SOIC127P600X175-8N
pins: 1 RO, 2 ~{RE}, 3 DE, 4 DI, 5 GND, 6 A, 7 B, 8 VCC

## MAX3490CSA+
designator IC?
Integrated Circuit; Manufacturer_Name: Analog Devices; Manufacturer_Part_Number: MAX3490CSA+; Datasheet Link: http://datasheets.maximintegrated.com/en/ds/MAX3483-MAX3491.pdf; Height: 1.75mm; Mouser Part Number: 700-MAX3490CSA; Mouser Price/Stock: https://www.mouser.co.uk/ProductDetail/Analog-Devices-Maxim-Integrated/MAX3490CSA%2b?qs=1THa7WoU59F06B84iT4GnQ%3D%3D; Arrow Part Number: MAX3490CSA+; Arrow Price/Stock: https://www.arrow.com/en/products/max3490csa/analog-devices?utm_currency=USD&region=nac
footprint SOIC127P600X175-8N
pins: 1 VCC, 2 RO, 3 DI, 4 GND, 5 Y, 6 Z, 7 B, 8 A

## MAX31856MUD+
designator IC?
Integrated Circuit; Manufacturer_Name: Analog Devices; Manufacturer_Part_Number: MAX31856MUD+; Datasheet Link: https://componentsearchengine.com/Datasheets/2/MAX31856MUD+.pdf; Height: 1.1mm; Mouser Part Number: 700-MAX31856MUD+; Mouser Price/Stock: https://www.mouser.co.uk/ProductDetail/Analog-Devices-Maxim-Integrated/MAX31856MUD%2b?qs=sO%2FZ8XQFeM1TlxwAJsKRYw%3D%3D; Arrow Part Number: MAX31856MUD+; Arrow Price/Stock: https://www.arrow.com/en/products/max31856mud/analog-devices.html?utm_currency=USD&region=nac
footprint SOP65P640X110-14N
pins: 1 AGND, 2 BIAS, 3 T-, 4 T+, 5 AVDD, 6 DNC, 7 ~{DRDY}, 8 DVDD, 9 ~{CS}, 10 SCK, 11 SDO, 12 SDI, 13 ~{FAULT}, 14 DGND

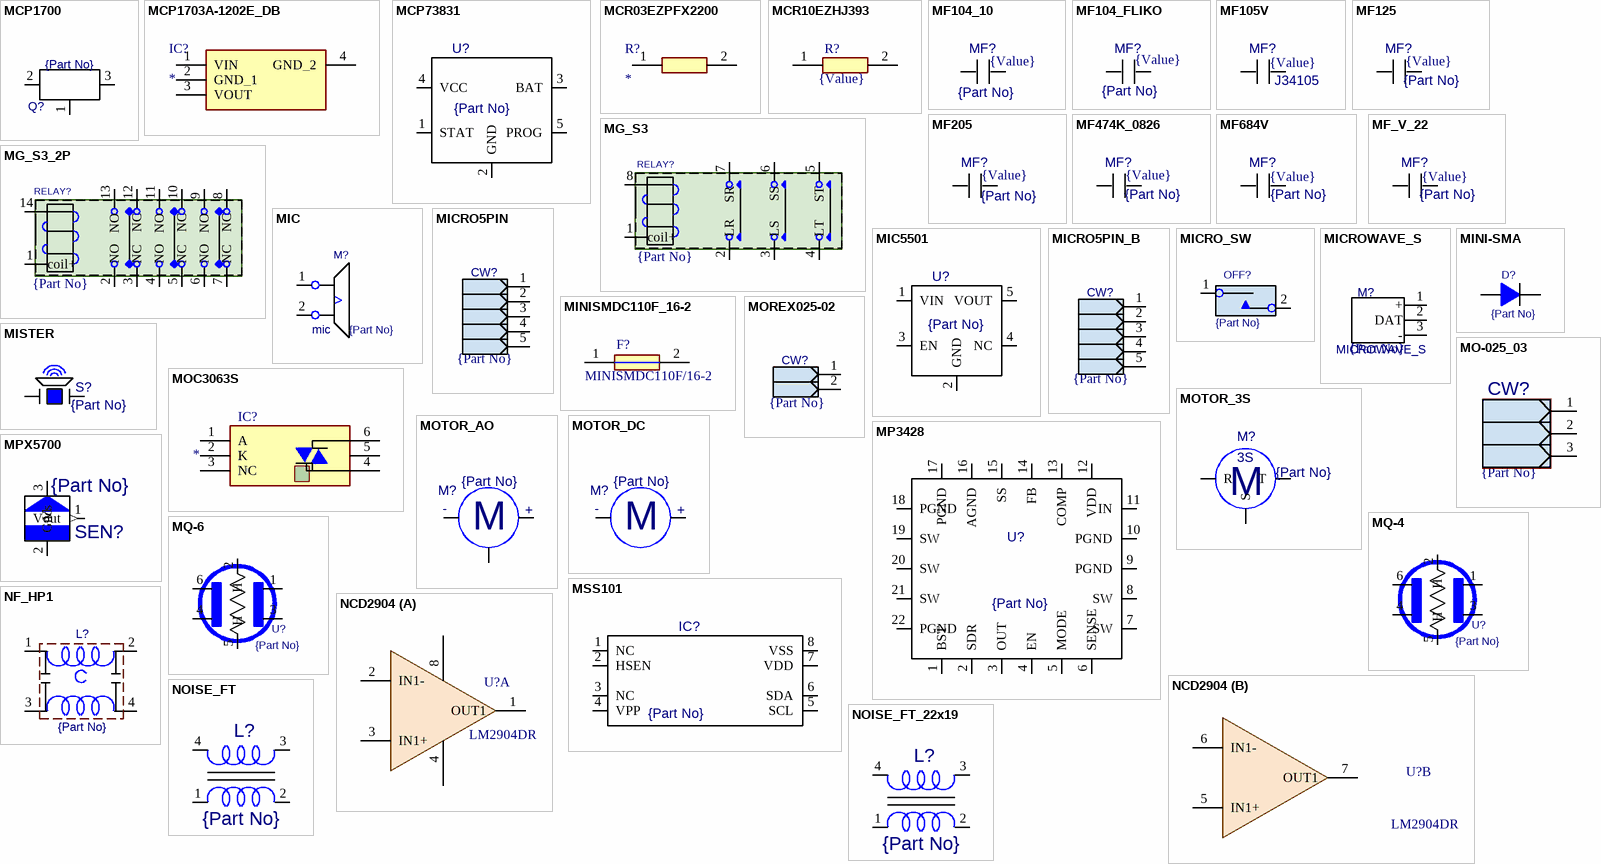
[diagram p10: symbols MCP1700 to NOISE_FT_22x19]

## MCP1700
designator Q?  Part No.: {Part No}  (hidden comment: MCP1700)
Price: {Price}
footprint SOT-23
pins: 1 G, 2 OUT, 3 IN

## MCP1703A-1202E_DB
designator IC?
Integrated Circuit; Manufacturer_Name: Microchip; Manufacturer_Part_Number: MCP1703A-1202E/DB; Datasheet Link: https://componentsearchengine.com/Datasheets/5/MCP1703A-1202E_DB.pdf; Height: 1.8mm; Mouser Part Number: 579-MCP1703A-1202EDB; Mouser Price/Stock: https://www.mouser.co.uk/ProductDetail/Microchip-Technology/MCP1703A-1202E-DB?qs=AhLyIN%252BxVHm6ZwZpPiPa1w%3D%3D; Arrow Part Number: MCP1703A-1202E/DB; Arrow Price/Stock: https://www.arrow.com/en/products/mcp1703a-1202edb_2/microchip-technology.html?utm_currency=USD&region=nac
footprint SOT230P700X180-4N
pins: 1 VIN, 2 GND_1, 3 VOUT, 4 GND_2

## MCP73831
designator U?  Part No.: {Part No}  (hidden comment: MCP73831)
Price: {Price}
footprint TSOT-23-5
pins: 1 STAT, 2 GND, 3 BAT, 4 VCC, 5 PROG

## MCR03EZPFX2200
designator R?
Resistor; Manufacturer_Name: ROHM Semiconductor; Manufacturer_Part_Number: MCR03EZPFX2200; Datasheet Link: http://docs-europe.electrocomponents.com/webdocs/1471/0900766b814716e9.pdf; Height: 0.55mm
footprint RESC1608X55N
pins: 1, 2

## MCR10EZHJ393
designator R?  규격: {Value}  (hidden comment: *)
Resistor; Manufacturer_Name: ROHM Semiconductor; Part No.: MCR10EZHJ393; Datasheet Link: https://datasheet.datasheetarchive.com/originals/distributors/Datasheets_SAMA/1ab69af562f3d7ebc0b0b73b9c89fd10.pdf; Height: 0.65mm; Price: {Price}
footprint RESC2012X65N
pins: 1, 2

## MF104_10
designator MF?  규격: {Value}  Part No.: {Part No}  (hidden comment: MF104_10)
Price: {Price}
footprint MF104_10
pins: 1, 2

## MF104_FLIKO
designator MF?  규격: {Value}  Part No.: {Part No}  (hidden comment: MF104_FLIKO)
Price: {Price}
footprint MF_104_Filkor
pins: 1, 2

## MF105V
designator MF?  규격: {Value}  Part No.: J34105  (hidden comment: MF105V)
Price: {Price}
footprint MF_V_22
pins: 1, 2

## MF125
designator MF?  규격: {Value}  Part No.: {Part No}  (hidden comment: MF125)
Price: {Price}
footprint MF125
pins: 1, 2

## MF205
designator MF?  규격: {Value}  Part No.: {Part No}  (hidden comment: MF205)
Price: {Price}
footprint MF205
pins: 1, 2

## MF474K_0826
designator MF?, comment 규격: {Value}  Part No.: {Part No}  (hidden comment: MF474K)
Price: {Price}
footprint MF0826
pins: 1, 2

## MF684V
designator MF?, comment 규격: {Value}  Part No.: {Part No}  (hidden comment: MF105V)
Price: {Price}
footprint MF_V_22
pins: 1, 2

## MF_V_22
designator MF?  규격: {Value}  Part No.: {Part No}  (hidden comment: MF_V_22)
Price: {Price}
footprint MF_V_22
pins: 1, 2

## MG_S3
designator RELAY?  Part No.: {Part No}  (hidden comment: MG_S3)
Price: {Price}
footprint HL2-2CM
pins: 1 coil+, 2 LR, 3 LS, 4 LT, 5 ST, 6 SS, 7 SR, 8 coil-

## MG_S3_2P
designator RELAY?  Part No.: {Part No}  (hidden comment: MG_S3_2P)
Price: {Price}
pins: 1 coil+, 2 NO, 3 NC, 4 NO, 5 NC, 6 NO, 7 NC, 8 NC, 9 NO, 10 NC, 11 NO, 12 NC, 13 NO, 14 coil-

## MIC
designator M?  Part No.: {Part No}  (hidden comment: MIC)
Price: {Price}
pins: 1, 2
text: mic

## MIC5501
designator U?  Part No.: {Part No}  (hidden comment: MIC5501)
Price: {Price}
footprint TSOT-23-5
pins: 1 VIN, 2 GND, 3 EN, 4 NC, 5 VOUT

## MICRO5PIN
designator CW?  Part No.: {Part No}  (hidden comment: MICRO5PIN)
Price: {Price}
footprint USB_250FB_C1005205
pins: 1, 2, 3, 4, 5

## MICRO5PIN_B
designator CW?  Part No.: {Part No}  (hidden comment: MICRO5PIN_B)
Price: {Price}
footprint MICRO5PIN_B
pins: 1, 2, 3, 4, 5

## MICRO_SW
designator OFF?  Part No.: {Part No}  (hidden comment: MICRO_SW)
Price: {Price}
pins: 1, 2

## MICROWAVE_S
designator M?  Part No.: {Part No}
Price: {Price}
pins: 1 +, 2 DAT, 3 -

## MINI-SMA
designator D?  Part No.: {Part No}  (hidden comment: MINI-SMA)
Price: {Price}
footprint MINI-SMA
pins: 1, 2

## MINISMDC110F_16-2
designator F?  Part No.: MINISMDC110F/16-2  (hidden comment: *)
Fuse; Manufacturer_Name: TE Connectivity; Datasheet Link: http://uk.rs-online.com/web/p/products/8675273; Height: 0.48mm; Mouser Part Number: 650-MINIC110F/16-2; Mouser Price/Stock: http://www.mouser.com/Search/ProductDetail.aspx?qs=F6FIpiMdEVbO38BJoYn0vA%3d%3d; Arrow Part Number: MINISMDC110F/16-2; Arrow Price/Stock: https://www.arrow.com/en/products/minismdc110f16-2/te-connectivity; Price: {Price}
footprint FUSC4632X48N
pins: 1, 2

## MISTER
designator S?  Part No.: {Part No}  (hidden comment: MISTER)
Price: {Price}
footprint BUZZ_DC
pins: 1, 2

## MO-025_03
designator CW?  Part No.: {Part No}  (hidden comment: MO-025_03)
Price: {Price}
footprint MO-025_03
pins: 1, 2, 3

## MOC3063S
designator IC?
Integrated Circuit; Manufacturer_Name: Lite-On; Manufacturer_Part_Number: MOC3063S; Datasheet Link: http://optoelectronics.liteon.com/upload/download/DS70-2001-026/MOC306X%20series%20201606.pdf; Height: 4.6mm; Mouser Part Number: 859-MOC3063S; Mouser Price/Stock: https://www.mouser.co.uk/ProductDetail/Lite-On/MOC3063S?qs=3iY3Mti5Ubng7p%252BRxiBBuQ%3D%3D; Arrow Part Number: MOC3063S; Arrow Price/Stock: https://www.arrow.com/en/products/moc3063s/lite-on-technology?utm_currency=USD&region=nac
footprint SOT254P1016X460-6N
pins: 1 A, 2 K, 3 NC, 4 T1, 5 SUBSTRATE, 6 T2

## MOREX025-02
designator CW?, comment Part No.: {Part No}  (hidden comment: SMW250-02D)
Price: {Price}
footprint SMW250-02D
pins: 1, 2

## MOTOR_3S
designator M?  Part No.: {Part No}  (hidden comment: MOTOR_3S)
Price: {Price}
pins: 1 R, 2 S, 3 T
text: 3S; M

## MOTOR_AO
designator M?, comment Part No.: {Part No}  (hidden comment: MOTOR_3S)
Price: {Price}
pins: 1 T, 2 SIG, 3 R
text: -; +; M

## MOTOR_DC
designator M?, comment Part No.: {Part No}  (hidden comment: MOTOR_3S)
Price: {Price}
pins: 1 R, 3 T
text: -; +; M

## MP3428
designator U?  Part No.: {Part No}  (hidden comment: MP3428)
Price: {Price}
footprint MP3428
pins: 1 BST, 2 SDR, 3 OUT, 4 EN, 5 MODE, 6 SENSE, 7 SW, 8 SW, 9 PGND, 10 PGND, 11 IN, 12 VDD, 13 COMP, 14 FB, 15 SS, 16 AGND, 17 PGND, 18 PGND, 19 SW, 20 SW, 21 SW, 22 PGND

## MPX5700
designator SEN?  Part No.: {Part No}  (hidden comment: MPX5700)
Price: {Price}
footprint MPX5700
pins: 1 Vout (out), 2 Gnd (power), 3 Vs (power), 4 hidden, 5 hidden, 6 hidden

## MQ-4
designator U?  Part No.: {Part No}
Price: {Price}
footprint MQ-4
pins: 1, 2 H, 3, 4, 5 H, 6

## MQ-6
designator U?  Part No.: {Part No}
Price: {Price}
footprint MQ-6
pins: 1, 2 H, 3, 4, 5 H, 6

## MSS101
designator IC?  Part No.: {Part No}  (hidden comment: MSS101)
EPROM-Based 8-Bit CMOS Microcontroller; OriginalName: PIC16C54-10/SO; ComponentField6: T0CKI (pin 3) must be tied to VSS or VDD, if not in use, to reduce current consumption; ComponentField7: Published 8-Jun-2000.; Price: {Price}
footprint MSS101
pins: 1 NC, 2 HSEN, 3 NC, 4 VPP, 5 SCL, 6 SDA, 7 VDD, 8 VSS

## NCD2904
designator U?, comment Part No.: LM2904DR  (hidden comment: NCV2904DR)
Dual general-purpose operational amplifier; Manufacturer_Name: Texas Instruments; Geometry.Height: 1.75mm; Mouser Part Number: 595-LM2904DR; Mouser Price/Stock: https://www.mouser.co.uk/ProductDetail/Texas-Instruments/LM2904DR?qs=5BZzbFV4k2vkQqOl3Q8qPg%3D%3D; Arrow Part Number: LM2904DR; Arrow Price/Stock: https://www.arrow.com/en/products/lm2904dr/texas-instruments?region=nac; Datasheet Link: http://www.ti.com/lit/gpn/lm2904; Price: {Price}
footprint SOIC127P600X175-8N
part A pins: 1 OUT1, 2 IN1-, 3 IN1+, 4 GND (power), 8 Vdd (power)
part B pins: 5 IN1+, 6 IN1-, 7 OUT1

## NF_HP1
designator L?  Part No.: {Part No}  (hidden comment: NF_HP1)
Price: {Price}
footprint NF_HP1
pins: 1, 2, 3, 4

## NOISE_FT
designator L?  Part No.: {Part No}  (hidden comment: NOISE_FT)
Price: {Price}
footprint NOISE_F
pins: 1, 2, 3, 4

## NOISE_FT_22x19
designator L?, comment Part No.: {Part No}  (hidden comment: NOISE_FT)
Price: {Price}
footprint NOISE_F_20x19
pins: 1, 2, 3, 4

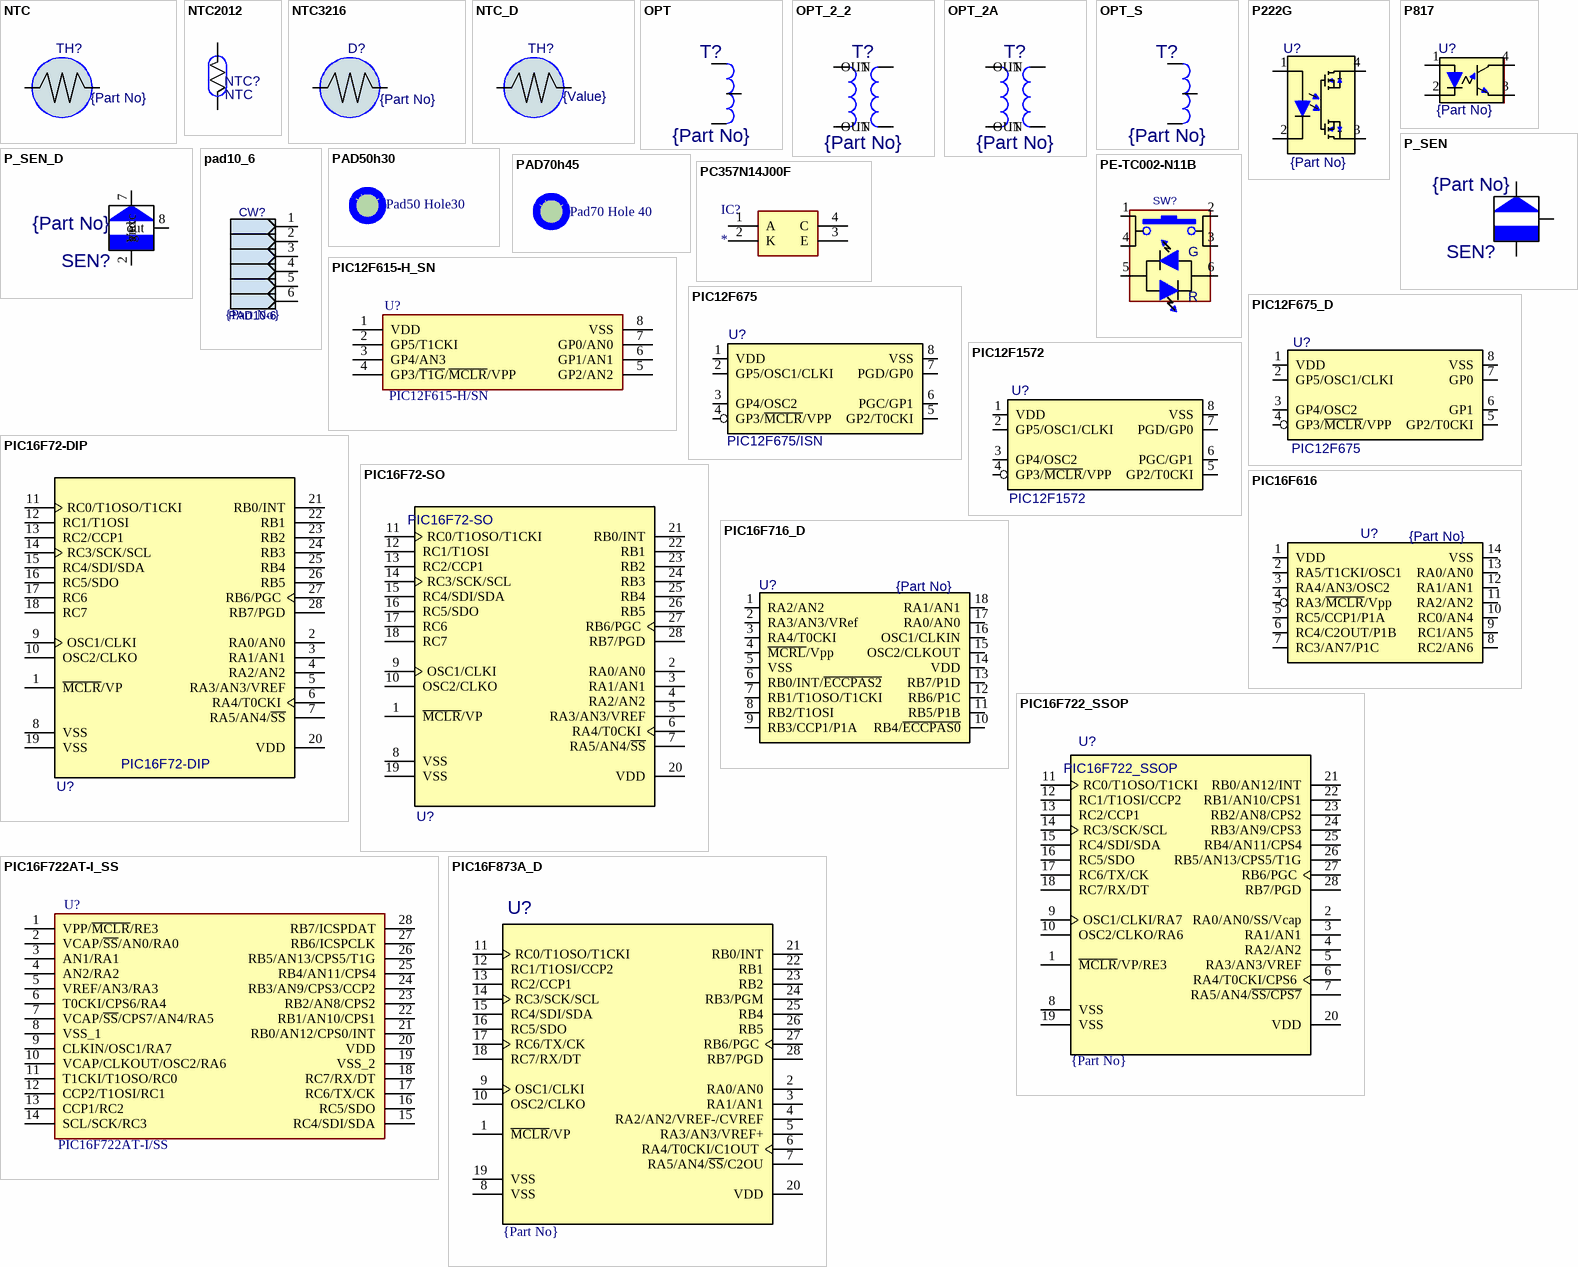
[diagram p11: symbols NTC to PIC16F873A_D]

## NTC
designator TH?  Part No.: {Part No}  (hidden comment: NTC)
Price: {Price}
footprint RC3216M
pins: 1, 2

## NTC2012
designator NTC?, comment NTC  (graphical)
Part No.: DD204J-4200; Price: 120
footprint R2012
pins: 1, 2

## NTC3216
designator D?  Part No.: {Part No}  (hidden comment: NTC3216)
Price: {Price}
footprint RC3216M
pins: 1, 2

## NTC_D
designator TH?  Part No.: {Value}  (hidden comment: NTC_D)
Price: {Price}
footprint R1_4
pins: 1, 2

## OPT
designator T?  Part No.: {Part No}  (hidden comment: OPT)
Price: {Price}
footprint OPT
pins: 1, 2, 3

## OPT_2_2
designator T?  Part No.: {Part No}  (hidden comment: OPT_2_2)
Price: {Price}
footprint OPT_2_2
pins: 1 IN, 2 IN, 3 OUT, 4 OUT

## OPT_2A
designator T?  Part No.: {Part No}  (hidden comment: OPT_2A)
Price: {Price}
footprint OPT_2_2
pins: 1 IN, 2 IN, 3 OUT, 4 OUT, 5 hidden

## OPT_S
designator T?  Part No.: {Part No}  (hidden comment: OPT_S)
Price: {Price}
footprint OPT_S
pins: 1, 2, 3

## P222G
designator U?  Part No.: {Part No}  (hidden comment: P222G)
Price: {Price}
footprint DIP4
pins: 1 A, 2 K, 3 E, 4 C

## P817
designator U?  Part No.: {Part No}  (hidden comment: P817)
Price: {Price}
footprint DIP4
pins: 1 A, 2 K, 3 E, 4 C

## P_SEN
designator SEN?  Part No.: {Part No}  (hidden comment: P_SEN)
Price: {Price}
pins: 1, 2, 3

## P_SEN_D
designator SEN?  Part No.: {Part No}  (hidden comment: P_SEN_D)
Price: {Price}
footprint WDIP8
pins: 1 n/c hidden, 2 gnd, 3 n/c hidden, 4 n/c hidden, 5 n/c hidden, 6 n/c hidden, 7 Vexc, 8 out

## pad10_6
designator CW?, comment PAD10-6  Part No.: {Part No}
Price: {Price}
footprint PAD10-06A
pins: 1, 2, 3, 4, 5, 6

## PAD50h30
designator Hole?, comment Pad50 Hole30
Pad70 Hole 40; Part No.: *
footprint PAD50H30
pins: 1 hidden

## PAD70h45
designator Hole?, comment Pad70 Hole 40
Part No.: *
footprint pad70h45
pins: 1 hidden

## PC357N14J00F
designator IC?
Integrated Circuit; Manufacturer_Name: Sharp Microelectronics; Manufacturer_Part_Number: PC357N14J00F; Height: 3mm
footprint SOP254P675X300-4N
pins: 1 A, 2 K, 3 E, 4 C

## PE-TC002-N11B
designator SW?  (value not drawn)
Part No.: {Part No}; Price: {Price}
footprint TACK_2LED
pins: 1, 2, 3, 4, 5, 6
text: G; R

## PIC12F615-H_SN
designator U?  Part No.: PIC12F615-H/SN  (hidden comment: PIC12F615-H_SN)
MCU, 1.75KB Flash, 64B, Int Osc, 8SOIC; Manufacturer_Name: Microchip; Geometry.Height: 1.75mm; Mouser Part Number: 579-PIC12F615-H/SN; Mouser Price/Stock: https://www.mouser.co.uk/ProductDetail/Microchip-Technology-Atmel/PIC12F615-H-SN?qs=bxUt0k7cytLN%2F6Gkxf7qlg%3D%3D; Arrow Part Number: PIC12F615-H/SN; Arrow Price/Stock: https://www.arrow.com/en/products/pic12f615-hsn/microchip-technology?region=nac; Datasheet Link: https://datasheet.datasheetarchive.com/originals/distributors/Datasheets-DGA25/1724954.pdf; Price: {Price}
footprint SOIC127P600X175-8N
pins: 1 VDD (power), 2 GP5/T1CKI, 3 GP4/AN3, 4 GP3/~{T1G}/~{MCLR}/VPP, 5 GP2/AN2, 6 GP1/AN1, 7 GP0/AN0, 8 VSS

## PIC12F675
designator U?  Part No.: PIC12F675/ISN  (hidden comment: PIC12F675)
EPROM-Based 8-Bit CMOS Microcontroller; OriginalName: PIC16C54-10/SO; ComponentField6: T0CKI (pin 3) must be tied to VSS or VDD, if not in use, to reduce current consumption; ComponentField7: Published 8-Jun-2000.; Price: {Price}
footprint SO8
pins: 1 VDD, 2 GP5/OSC1/CLKI, 3 GP4/OSC2, 4 GP3/~{MCLR}/VPP, 5 GP2/T0CKI, 6 PGC/GP1, 7 PGD/GP0, 8 VSS

## PIC12F675_D
designator U?  Part No.: PIC12F675  (hidden comment: PIC12F675_D)
EPROM-Based 8-Bit CMOS Microcontroller; OriginalName: PIC16C54-10/SO; ComponentField6: T0CKI (pin 3) must be tied to VSS or VDD, if not in use, to reduce current consumption; ComponentField7: Published 8-Jun-2000.; Price: {Price}
footprint DIP8
pins: 1 VDD, 2 GP5/OSC1/CLKI, 3 GP4/OSC2, 4 GP3/~{MCLR}/VPP, 5 GP2/T0CKI, 6 GP1, 7 GP0, 8 VSS

## PIC12F1572
designator U?
EPROM-Based 8-Bit CMOS Microcontroller; OriginalName: PIC16C54-10/SO; ComponentField6: T0CKI (pin 3) must be tied to VSS or VDD, if not in use, to reduce current consumption; ComponentField7: Published 8-Jun-2000.; Price: {Price}; Part No.: PIC12F1572
footprint SO8
pins: 1 VDD, 2 GP5/OSC1/CLKI, 3 GP4/OSC2, 4 GP3/~{MCLR}/VPP, 5 GP2/T0CKI, 6 PGC/GP1, 7 PGD/GP0, 8 VSS

## PIC16F72-DIP
designator U?  Part No.: {Part No}
Price: {Price}
footprint SDIP28
pins: 1 ~{MCLR}/VP, 2 RA0/AN0, 3 RA1/AN1, 4 RA2/AN2, 5 RA3/AN3/VREF, 6 RA4/T0CKI, 7 RA5/AN4/~{SS}, 8 VSS, 9 OSC1/CLKI, 10 OSC2/CLKO, 11 RC0/T1OSO/T1CKI, 12 RC1/T1OSI, 13 RC2/CCP1, 14 RC3/SCK/SCL, 15 RC4/SDI/SDA, 16 RC5/SDO, 17 RC6, 18 RC7, 19 VSS, 20 VDD, 21 RB0/INT, 22 RB1, 23 RB2, 24 RB3, 25 RB4, 26 RB5, 27 RB6/PGC, 28 RB7/PGD

## PIC16F72-SO
designator U?  Part No.: {Part No}
Price: {Price}
footprint SOL28
pins: 1 ~{MCLR}/VP, 2 RA0/AN0, 3 RA1/AN1, 4 RA2/AN2, 5 RA3/AN3/VREF, 6 RA4/T0CKI, 7 RA5/AN4/~{SS}, 8 VSS, 9 OSC1/CLKI, 10 OSC2/CLKO, 11 RC0/T1OSO/T1CKI, 12 RC1/T1OSI, 13 RC2/CCP1, 14 RC3/SCK/SCL, 15 RC4/SDI/SDA, 16 RC5/SDO, 17 RC6, 18 RC7, 19 VSS, 20 VDD, 21 RB0/INT, 22 RB1, 23 RB2, 24 RB3, 25 RB4, 26 RB5, 27 RB6/PGC, 28 RB7/PGD

## PIC16F616
designator U?  Part No.: {Part No}  (hidden comment: PIC16F616)
EPROM-Based 8-Bit CMOS Microcontroller; OriginalName: PIC16C54-10/SO; ComponentField6: T0CKI (pin 3) must be tied to VSS or VDD, if not in use, to reduce current consumption; ComponentField7: Published 8-Jun-2000.; Price: {Price}
footprint SO14
pins: 1 VDD, 2 RA5/T1CKI/OSC1, 3 RA4/AN3/OSC2, 4 RA3/~{MCLR}/Vpp, 5 RC5/CCP1/P1A, 6 RC4/C2OUT/P1B, 7 RC3/AN7/P1C, 8 RC2/AN6, 9 RC1/AN5, 10 RC0/AN4, 11 RA2/AN2, 12 RA1/AN1, 13 RA0/AN0, 14 VSS

## PIC16F716_D
designator U?  Part No.: {Part No}  (hidden comment: PIC16F716_D)
EPROM-Based 8-Bit CMOS Microcontroller; OriginalName: PIC16C54-10/SO; ComponentField6: T0CKI (pin 3) must be tied to VSS or VDD, if not in use, to reduce current consumption; ComponentField7: Published 8-Jun-2000.; Price: {Price}
footprint DIP18
pins: 1 RA2/AN2, 2 RA3/AN3/VRef, 3 RA4/T0CKI, 4 ~{MCRL}/Vpp, 5 VSS, 6 RB0/INT/~{ECCPAS2}, 7 RB1/T1OSO/T1CKI, 8 RB2/T1OSI, 9 RB3/CCP1/P1A, 10 RB4/~{ECCPAS0}, 11 RB5/P1B, 12 RB6/P1C, 13 RB7/P1D, 14 VDD, 15 OSC2/CLKOUT, 16 OSC1/CLKIN, 17 RA0/AN0, 18 RA1/AN1

## PIC16F722_SSOP
designator U?  Part No.: {Part No}
Price: {Price}
footprint SSOP28
pins: 1 ~{MCLR}/VP/RE3, 2 RA0/AN0/SS/Vcap, 3 RA1/AN1, 4 RA2/AN2, 5 RA3/AN3/VREF, 6 RA4/T0CKI/CPS6, 7 RA5/AN4/~{SS/CPS7}, 8 VSS, 9 OSC1/CLKI/RA7, 10 OSC2/CLKO/RA6, 11 RC0/T1OSO/T1CKI, 12 RC1/T1OSI/CCP2, 13 RC2/CCP1, 14 RC3/SCK/SCL, 15 RC4/SDI/SDA, 16 RC5/SDO, 17 RC6/TX/CK, 18 RC7/RX/DT, 19 VSS, 20 VDD, 21 RB0/AN12/INT, 22 RB1/AN10/CPS1, 23 RB2/AN8/CPS2, 24 RB3/AN9/CPS3, 25 RB4/AN11/CPS4, 26 RB5/AN13/CPS5/T1G, 27 RB6/PGC, 28 RB7/PGD

## PIC16F722AT-I_SS
designator U?  Part No.: PIC16F722AT-I/SS  (hidden comment: PIC16F722AT-I_SS)
8-bit Microcontrollers - MCU 3.5KB Flsh 1.8V-5.5V 16 MHz int Osc; Manufacturer_Name: Microchip; Geometry.Height: 2mm; Mouser Part Number: 579-PIC16F722ATISS; Mouser Price/Stock: https://www.mouser.co.uk/ProductDetail/Microchip-Technology/PIC16F722AT-I-SS?qs=Ke8nU8rGVnPX4TQv5pD89Q%3D%3D; Arrow Part Number: PIC16F722AT-I/SS; Arrow Price/Stock: https://www.arrow.com/en/products/pic16f722at-iss/microchip-technology?region=nac; Datasheet Link: http://www.microchip.com/mymicrochip/filehandler.aspx?ddocname=en547804; Price: {Price}
footprint SOP-28N
pins: 1 VPP/~{MCLR}/RE3, 2 VCAP/~{SS}/AN0/RA0, 3 AN1/RA1, 4 AN2/RA2, 5 VREF/AN3/RA3, 6 T0CKI/CPS6/RA4, 7 VCAP/~{SS}/CPS7/AN4/RA5, 8 VSS_1, 9 CLKIN/OSC1/RA7, 10 VCAP/CLKOUT/OSC2/RA6, 11 T1CKI/T1OSO/RC0, 12 CCP2/T1OSI/RC1, 13 CCP1/RC2, 14 SCL/SCK/RC3, 15 RC4/SDI/SDA, 16 RC5/SDO, 17 RC6/TX/CK, 18 RC7/RX/DT, 19 VSS_2, 20 VDD, 21 RB0/AN12/CPS0/INT, 22 RB1/AN10/CPS1, 23 RB2/AN8/CPS2, 24 RB3/AN9/CPS3/CCP2, 25 RB4/AN11/CPS4, 26 RB5/AN13/CPS5/T1G, 27 RB6/ICSPCLK, 28 RB7/ICSPDAT

## PIC16F873A_D
designator U?  Part No.: {Part No}  (hidden comment: PIC16F873A_D)
PackageDocument: 2003; Note: 25mA sink/source per I/O.; ComponentLink1DescBC: Manufacturer Link; ComponentLink2DescA4: Datasheet; ComponentLink3DescAC: Packaging Specification; Published: 11-Oct-2004; LatestRevisionDate: 4-Mar-2005; LatestRevisionNote: Stylized 3D Model Added.; DatasheetDocument: DS39582B_2003; PackageReference: PDIP300-28; Publisher: Altium Limited; Code_JEDEC: MO-095; ComponentLink1URL: http://www.microchip.com/index.asp; ComponentLink2URL: http://ww1.microchip.com/downloads/en/DeviceDoc/39582b.pdf; ComponentLink3URL: http://ww1.microchip.com/downloads/en/PackagingSpec/00049AD.pdf; Price: {Price}
footprint SDIP28
pins: 1 ~{MCLR}/VP, 2 RA0/AN0, 3 RA1/AN1, 4 RA2/AN2/VREF-/CVREF, 5 RA3/AN3/VREF+, 6 RA4/T0CKI/C1OUT, 7 RA5/AN4/~{SS}/C2OU, 8 VSS, 9 OSC1/CLKI, 10 OSC2/CLKO, 11 RC0/T1OSO/T1CKI, 12 RC1/T1OSI/CCP2, 13 RC2/CCP1, 14 RC3/SCK/SCL, 15 RC4/SDI/SDA, 16 RC5/SDO, 17 RC6/TX/CK, 18 RC7/RX/DT, 19 VSS, 20 VDD, 21 RB0/INT, 22 RB1, 23 RB2, 24 RB3/PGM, 25 RB4, 26 RB5, 27 RB6/PGC, 28 RB7/PGD

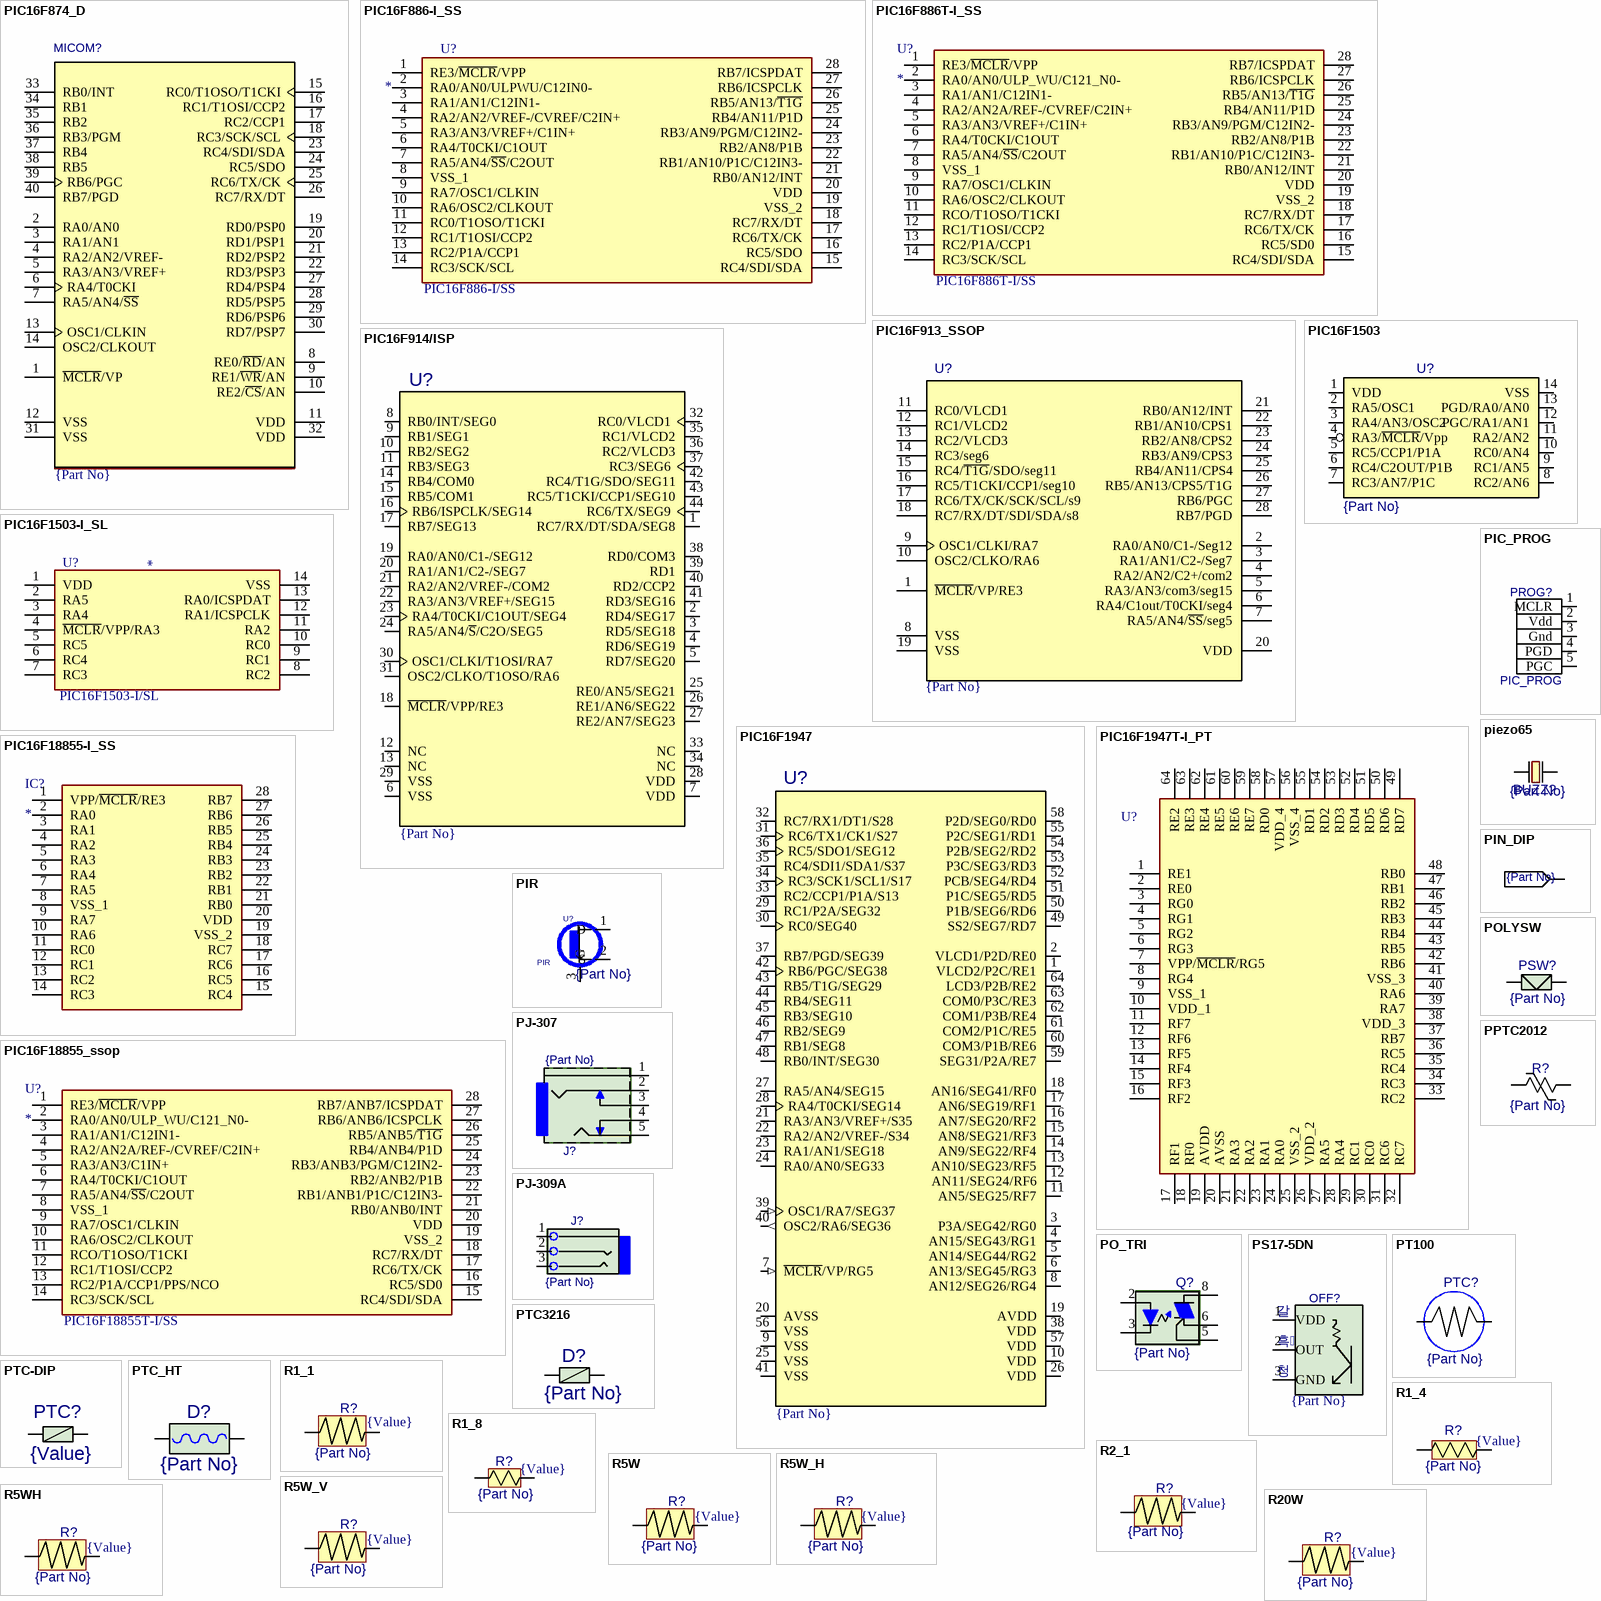
[diagram p12: symbols PIC16F874_D to R20W]

## PIC16F874_D
designator MICOM?  Part No.: {Part No}  (hidden comment: PIC16F874_D)
Price: {Price}
footprint DIP40
pins: 1 ~{MCLR}/VP, 2 RA0/AN0, 3 RA1/AN1, 4 RA2/AN2/VREF-, 5 RA3/AN3/VREF+, 6 RA4/T0CKI, 7 RA5/AN4/~{SS}, 8 RE0/~{RD}/AN, 9 RE1/~{WR}/AN, 10 RE2/~{CS}/AN, 11 VDD, 12 VSS, 13 OSC1/CLKIN, 14 OSC2/CLKOUT, 15 RC0/T1OSO/T1CKI, 16 RC1/T1OSI/CCP2, 17 RC2/CCP1, 18 RC3/SCK/SCL, 19 RD0/PSP0, 20 RD1/PSP1, 21 RD2/PSP2, 22 RD3/PSP3, 23 RC4/SDI/SDA, 24 RC5/SDO, 25 RC6/TX/CK, 26 RC7/RX/DT, 27 RD4/PSP4, 28 RD5/PSP5, 29 RD6/PSP6, 30 RD7/PSP7, 31 VSS, 32 VDD, 33 RB0/INT, 34 RB1, 35 RB2, 36 RB3/PGM, 37 RB4, 38 RB5, 39 RB6/PGC, 40 RB7/PGD